# Altium schematic symbol library AltiumLib.SchLib: 341 symbols (part 3 of 5)
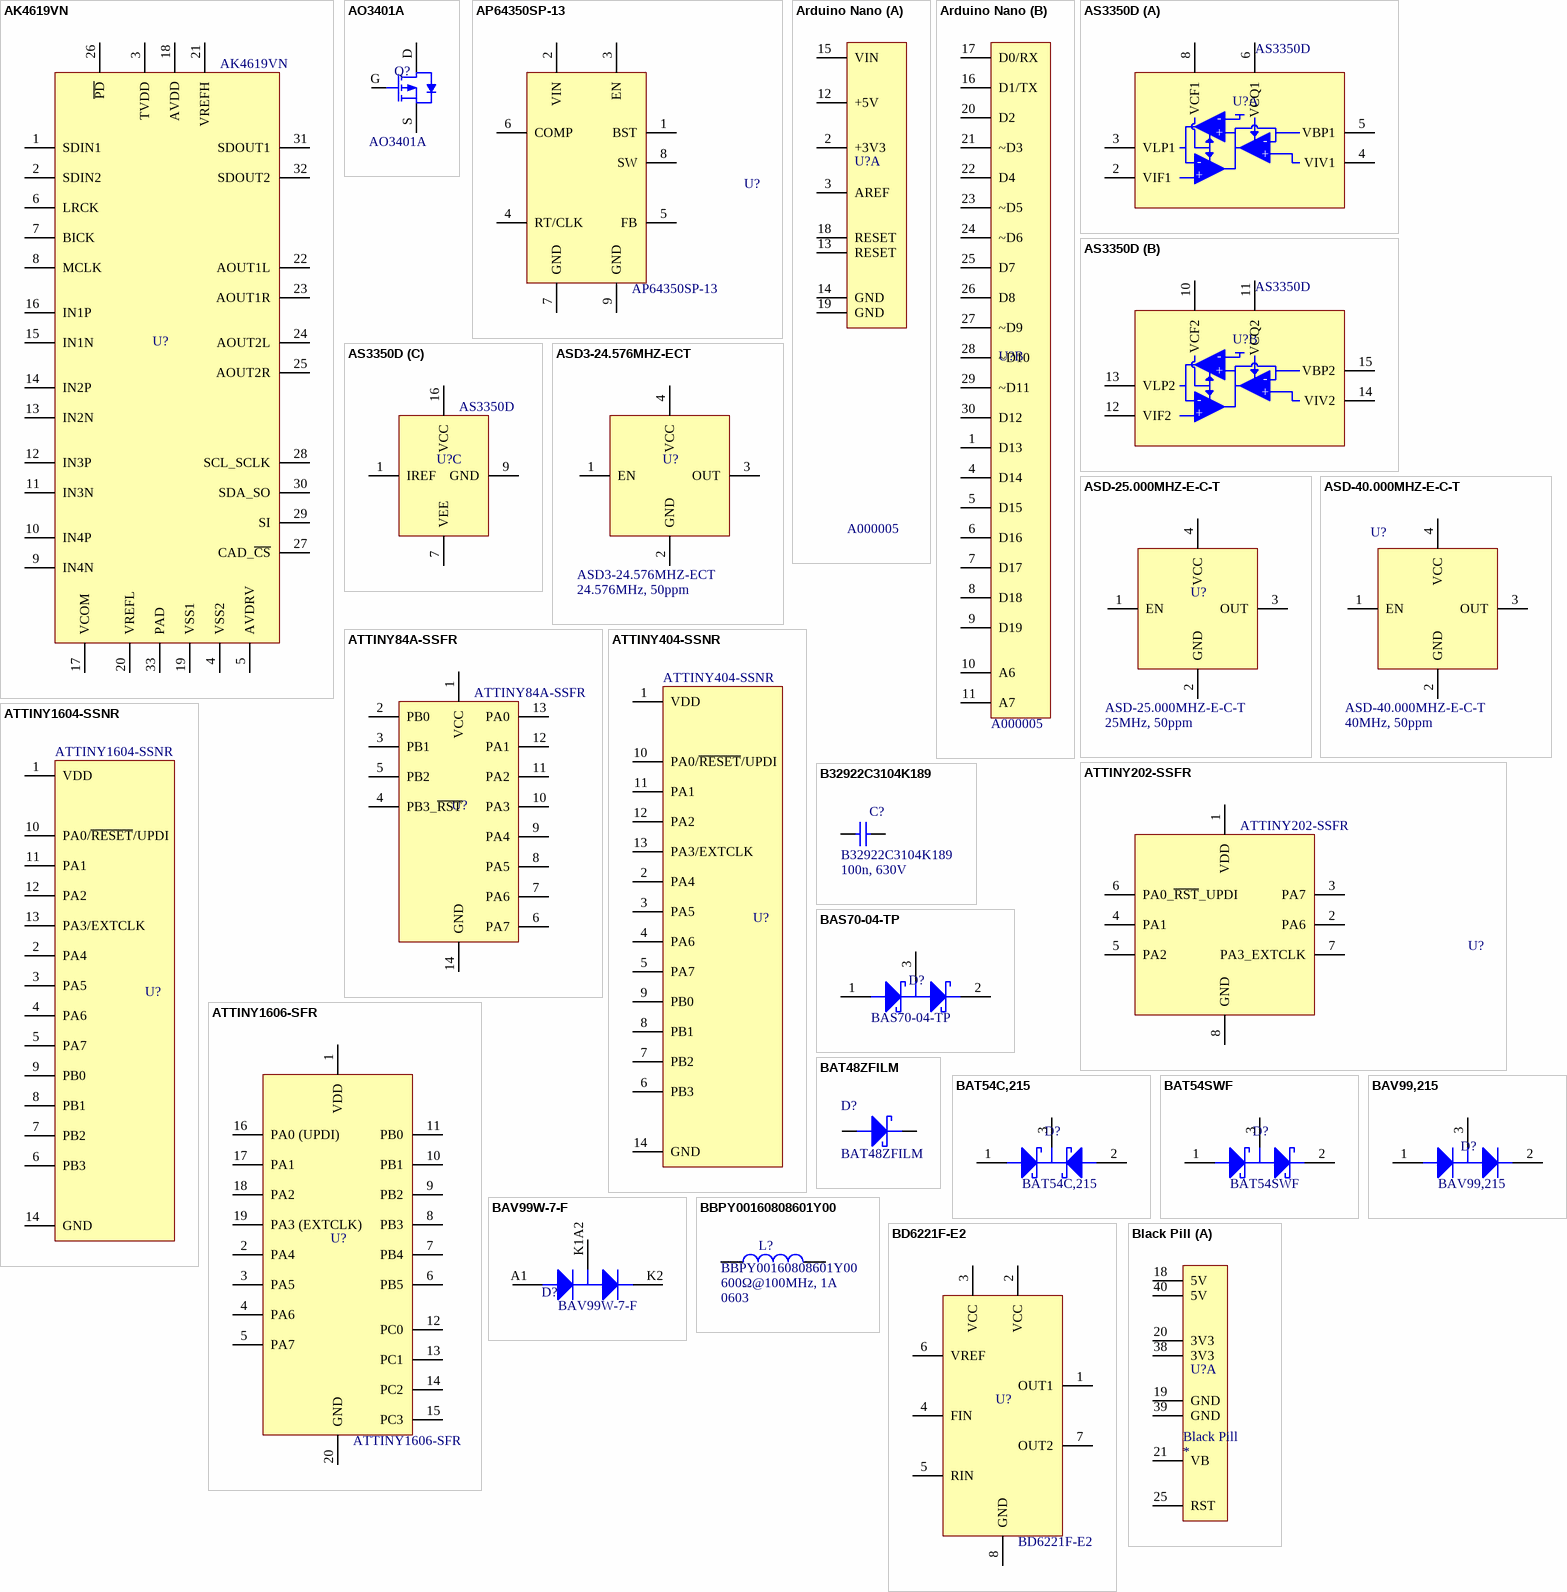
[diagram p21: symbols AK4619VN to Black Pill]

## ATTINY84A-SSFR
designator U?
8-bit Microcontrollers - MCU 20MHz, SOIC, High Grade (+125C), T&R; Manufacturer: Microchip; Category: IC; Sub-Category: CPU; Package: SOIC14; Value: ATTINY84A-SSFR
footprint SOIC127P600X175-14N (SOIC, 14-Leads, Body 8,65x3,90mm, Pitch 1,27mm, IPC Medium Density)
pins: 1 VCC, 2 PB0, 3 PB1, 4 PB3_~{RST}, 5 PB2, 6 PA7, 7 PA6, 8 PA5, 9 PA4, 10 PA3, 11 PA2, 12 PA1, 13 PA0, 14 GND

## ATTINY202-SSFR
designator U?
RISC Microcontroller, 8-Bit, FLASH, AVR RISC CPU, 16MHz, CMOS, PDSO8; Manufacturer: Microchip; RoHS Compliant: Yes; Category: IC; Sub-Category: CPU; REACH SVHC: Yes; Manufacturer Part Number: ATTINY202-SSFR; Component Type: Standard_IC_CPU; Package: SOIC8; Value: ATTINY202-SSFR
footprint SOIC127P600X175-8N (SOIC, 8-Leads, Body 4.91x3.90mm, Pitch 1.27mm, IPC Medium Density)
pins: 1 VDD, 2 PA6, 3 PA7, 4 PA1, 5 PA2, 6 PA0_~{RST}_UPDI, 7 PA3_EXTCLK, 8 GND

## ATTINY404-SSNR
designator U?
Microcontroller, 8-Bit, FLASH, AVR RISC CPU, 20MHz, CMOS, PDSO14; Manufacturer: Microchip; Reach SVHC Compliant: Yes; Category: IC; Sub-Category: CPU; RoHS Compliant: Yes; Manufacturer Part Number: ATTINY404-SSNR; Component Type: Standard_IC_CPU; Package: SOIC14; Value: ATTINY404-SSNR
footprint SOIC127P600X175-14N (SOIC, 14-Leads, Body 8.65x3.90mm, Pitch 1.27mm, IPC Medium Density)
pins: 1 VDD, 2 PA4, 3 PA5, 4 PA6, 5 PA7, 6 PB3, 7 PB2, 8 PB1, 9 PB0, 10 PA0/~{RESET}/UPDI, 11 PA1, 12 PA2, 13 PA3/EXTCLK, 14 GND

## ATTINY1604-SSNR
designator U?
RISC Microcontroller, 8-Bit, FLASH, AVR RISC CPU, 20MHz, CMOS, PDSO14; Manufacturer: Microchip; Sub-Category: CPU; Category: IC; RoHS Compliant: Yes; Reach SVHC Compliant: Yes; Manufacturer Part Number: ATTINY1604-SSNR; Component Type: Standard_IC_CPU; Package: SOIC14; Value: ATTINY1604-SSNR
footprint SOIC127P600X175-14N (SOIC, 14-Leads, Body 8.65x3.90mm, Pitch 1.27mm, IPC Medium Density)
pins: 1 VDD, 2 PA4, 3 PA5, 4 PA6, 5 PA7, 6 PB3, 7 PB2, 8 PB1, 9 PB0, 10 PA0/~{RESET}/UPDI, 11 PA1, 12 PA2, 13 PA3/EXTCLK, 14 GND

## ATTINY1606-SFR
designator U?
8-bit Microcontrollers - MCU 20MHz, 16KB, SOIC20; Manufacturer: Microchip; Category: IC; Sub-Category: CPU; Package: SOIC20; Value: ATTINY1606-SFR
footprint SOIC127P1030X265-20N (SOIC, 20-Leads, Body 12,80x7,50mm, Pitch 1,27mm, IPC Medium Density)
pins: 1 VDD, 2 PA4, 3 PA5, 4 PA6, 5 PA7, 6 PB5, 7 PB4, 8 PB3, 9 PB2, 10 PB1, 11 PB0, 12 PC0, 13 PC1, 14 PC2, 15 PC3, 16 PA0 (UPDI), 17 PA1, 18 PA2, 19 PA3 (EXTCLK), 20 GND

## B32922C3104K189
designator C?  Notes: 100n, 630V  (hidden comment: B32922C3104K189)
Film Capacitor, Polypropylene, 630V, 10% +Tol, 10% -Tol, 0.1uF, Through Hole Mount; Manufacturer: TDK; Reference Standard: IEC60384-14; Rated AC Voltage (URac): 305V; Capacitance: 100nF; Mount: Through Hole; Length: 18mm; Negative Tolerance: 10%; Rated DC Voltage (URdc): 630V; Reach SVHC Compliant: Yes; Terminal Pitch: 15mm; Package Style: RadialMeter; JESD-609 Code: e3; Packaging: Tape and Reel; RoHS Compliant: Yes; Positive Tolerance: 10%; Terminal Finish: Tin; Category: Capacitor; Dielectric Material: Polypropylene; Width: 10.5mm; Package Shape: Rectangular; Capacitor Type: FILM; Termination: Wire; Size Code: 7141; Sub-Category: Film; Height: 5mm; Number of Pins: 2; Min Operating Temperature: -40°C; Max Operating Temperature: 110°C; Manufacturer Part Number: B32922C3104K189; Component Type: Standard_Passive_C; Value: B32922C3104K189
footprint C_Film_W5mm, H10.5mm, L18mm, 15mm pitch (Film Capacitor, Non Polarized, 15mm lead spacing, 5mm width, 10.5mm Height, 18mm length)
pins: 1, 2

## BAS70-04-TP
designator D?
Pair Series Connection 100mA 10nA@50V 1V@15mA 70V 70mA SOT-23 Schottky Diodes; Manufacturer: MDD; Category: Diode; Sub-Category: Schottky; Package: SOT23; Value: BAS70-04-TP
footprint SOT95P230X110-3N
pins: 1, 2, 3

## BAT48ZFILM
designator D?
Rectifier Diode, Schottky, 1 Phase, 1 Element, 0.35A, 40V V(RRM), Silicon; Manufacturer: ST Microelectronics; Number of Elements: 1; Package Body Material: Plastic; Forward Voltage-Max (VF): 250mV; Non-rep Pk Forward Current-Max: 2A; Time @ Peak Reflow Temperature-Max (s): 30s; Max Output Current: 350mA; Qualification Status: Not Qualified; Peak Reflow Temperature (Cel): 260°C; Max Operating Temperature: 150°C; Terminal Position: DUAL; Rep Pk Reverse Voltage-Max: 40V; Technology: SCHOTTKY; JESD-30 Code: R-PDSO-G2; Category: Diode; Diode Type: RECTIFIER; Surface Mount: Yes; RoHS Compliant: Yes; Diode Element Material: SILICON; Number of Pins: 2; Sub-Category: Signal; Terminal Form: Gull Wing; REACH SVHC: Yes; JESD-609 Code: e3; Package Shape: Rectangular; Package Style: SMALL OUTLINEMeter; Terminal Finish: Tin; Manufacturer Part Number: BAT48ZFILM; Component Type: Standard_Diode; Package: SOD123; Value: BAT48ZFILM
footprint SODFL365X145-2N (SODFL, 2-Leads, Body 1.55x3.65mm, IPC Medium Density)
pins: A, K

## BAT54C,215
designator D?
Schottky Diodes & Rectifiers BAT54C/SOT23/TO-236AB; Manufacturer: Nexperia; Category: Diode; Sub-Category: Signal; Package: SOT-23-3; Value: BAT54C,215
footprint SOT95P248X115-3N (SOT23, 3-Leads, Body 2,95x2,48mm, Pitch 0,95mm, IPC Medium Density)
pins: 1, 2, 3

## BAT54SWF
designator D?
Schottky barrier diodes; Manufacturer: Nexperia; Category: Diode; Sub-Category: Signal; Package: SOT-323-3; Value: BAT54SWF
footprint SOT65P210X110-3N (SOT23, 3-Leads, Body 2,00x2,10mm, Pitch 0,65mm, IPC Medium Density)
pins: 1, 2, 3

## BAV99,215
designator D?
1 Pair Series Connection 1.25V@150mA 100V 215mA 250mW 4A 4ns 500nA@80V SOT-23 Switching Diodes ROHS; Manufacturer: Nexperia; Category: Diode; Sub-Category: Signal; Package: SOT23; Value: BAV99,215
footprint SOT95P230X110-3N
pins: 1, 2, 3

## BAV99W-7-F
designator D?
Rectifier Diode, 1 Phase, 2 Element, 0.15A, 75V V(RRM), Silicon; Manufacturer: Diodes Incorporated; Reverse Recovery Time-Max: 0.004us; Max Power Dissipation: 200mW; Case Connection: Isolated; Qualification Status: Not Qualified; Additional Feature: HIGH RELIABILITY; Package Body Material: Plastic; Time @ Peak Reflow Temperature-Max (s): 40s; Forward Voltage-Max (VF): 715mV; Max Output Current: 150mA; Number of Elements: 2; Non-rep Pk Forward Current-Max: 2A; Number of Pins: 3; Diode Element Material: SILICON; Diode Type: RECTIFIER; Package Shape: Rectangular; Rep Pk Reverse Voltage-Max: 75V; REACH SVHC: Yes; Surface Mount: Yes; JESD-30 Code: R-PDSO-G3; Terminal Form: Gull Wing; Moisture Sensitivity Level: 1; JESD-609 Code: e3; Sub-Category: Signal; Max Operating Temperature: 150°C; RoHS Compliant: Yes; Peak Reflow Temperature (Cel): 260°C; Terminal Position: DUAL; Package Style: SMALL OUTLINEMeter; Min Operating Temperature: -65°C; Terminal Finish: Tin; Category: Diode; Manufacturer Part Number: BAV99W-7-F; Component Type: Standard_Diode; Package: SOT323; Value: BAV99W-7-F
footprint SOT65P210X110-3N (SOT23, 3-Leads, Body 2.00x2.10mm, Pitch 0.65mm, IPC Medium Density); pin to pad A1>1 K1A2>3 K2>2
pins: A1, K1A2, K2

## BBPY00160808601Y00
designator L?  Package: 0603  Notes: 600Ω@100MHz, 1A  (hidden comment: BBPY00160808601Y00)
200mΩ 600Ω@100MHz 0603 Ferrite Beads ROHS; Manufacturer: Chilisin Elec; Category: Inductor; Sub-Category: Ferrite; Value: BBPY00160808601Y00
footprint INDC1608X10N (Chip Inductor, 2-Leads, Body 1,60x0,80mm, IPC Medium Density)
pins: 1, 2

## BD6221F-E2
designator U?
DC Brush Motor Driver, 6 to 18 V, 1 A, -40 to 85 degC, 8-Pin SOP, RoHS, Tape and Reel; Manufacturer: ROHM Semiconductor; Supply Voltage: 6 to 15 V; RON@IOUT: 0.5 A=1.5 Ohm Typ.; Output Current: 1 A Max.; ComponentLink1URL: http://www.rohm.com/web/global/; Mounting Technology: Surface Mount; DatasheetVersion: Rev. 003; ComponentLink2Description: Datasheet; RoHS: TRUE; ComponentLink3URL: http://rohmfs.rohm.com/en/products/databook/package/spec/ic/sop-1-2-e.pdf; ComponentLink1Description: Manufacturer URL; PartNumber: BD6221F-E2; PackageDescription: 8-Pin Small Outline Package, Body 5 x 4.4 mm, Pitch 1.27 mm; ComponentLink3Description: Package Specification; ComponentLink2URL: http://rohmfs.rohm.com/en/products/databook/datasheet/ic/motor/dc/bd622x-e.pdf; Temperature Range: -40 to 85 degC; PackageVersion: Rev. A; Packing: Tape and Reel; Category: IC; Sub-Category: Power; Package: SOP8; Value: BD6221F-E2
footprint SOP127P620X160-8N (SOP, 8-Leads, Body 5.2x4.6mm, Pitch 1.27mm)
pins: 1 OUT1 (hiz) "Driver output", 2 VCC (power) "Power supply", 3 VCC (power) "Power supply", 4 FIN "Control input (forward)", 5 RIN "Control input (reverse)", 6 VREF "Duty setting pin", 7 OUT2 (hiz) "Driver output", 8 GND (power) "Ground"

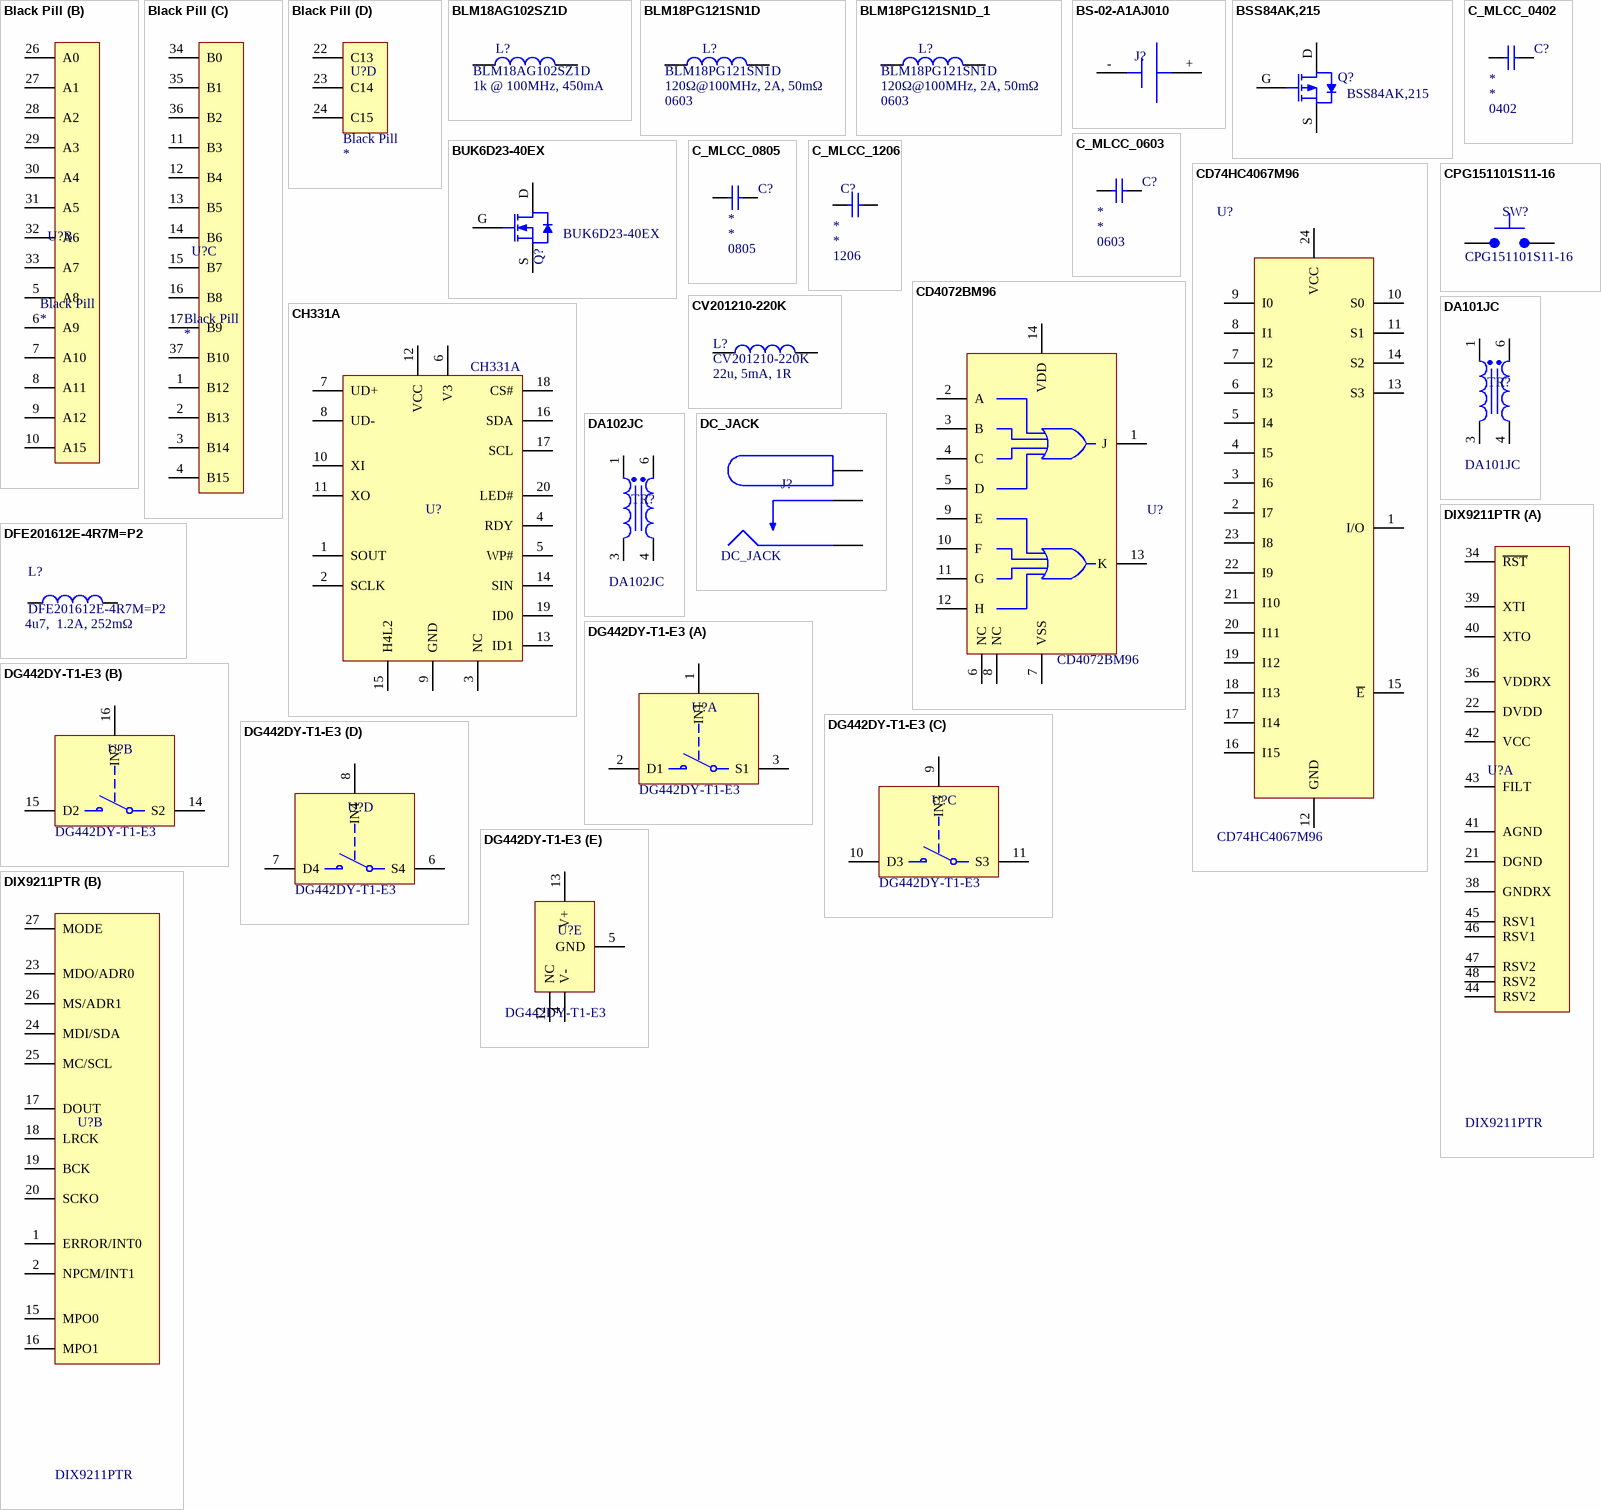
[diagram p5: symbols Black Pill to DIX9211PTR]

## Black Pill
designator U?, comment value Black Pill  (hidden comment: Blackpill)
Manufacturer: We Act; Category: Module; Sub-Category: CPU; Notes: *
footprint BlackPill - WeAct
part A pins: 18 5V, 19 GND, 20 3V3, 21 VB, 25 RST, 38 3V3, 39 GND, 40 5V
part B pins: 5 A8, 6 A9, 7 A10, 8 A11, 9 A12, 10 A15, 26 A0, 27 A1, 28 A2, 29 A3, 30 A4, 31 A5, 32 A6, 33 A7
part C pins: 1 B12, 2 B13, 3 B14, 4 B15, 11 B3, 12 B4, 13 B5, 14 B6, 15 B7, 16 B8, 17 B9, 34 B0, 35 B1, 36 B2, 37 B10
part D pins: 22 C13, 23 C14, 24 C15

## BLM18AG102SZ1D
designator L?  Notes: 1k @ 100MHz, 450mA  (hidden comment: BLM18AG102SZ1D)
Ferrite Chip, 1 Function(s), 0.45A, 2 Pin(s); Manufacturer: Murata; Sub-Category: Ferrite; Reach SVHC Compliant: Yes; Category: Inductor; RoHS Compliant: Yes; Filter Type: FERRITE CHIP; Manufacturer Part Number: BLM18AG102SZ1D; Component Type: Standard_Passive_L; Value: BLM18AG102SZ1D
footprint INDC1608X10N (Chip Inductor, 2-Leads, Body 1.60x0.80mm, IPC Medium Density)
pins: 1, 2

## BLM18PG121SN1D
designator L?  Package: 0603  Notes: 120Ω@100MHz, 2A, 50mΩ  (hidden comment: BLM18PG121SN1D)
120Ω@100MHz 2A 50mΩ ±25% 0603 Ferrite Beads ROHS; Manufacturer: Murata; Category: Inductor; Sub-Category: Ferrite; Value: BLM18PG121SN1D
footprint INDC1608X10N (Chip Inductor, 2-Leads, Body 1,60x0,80mm, IPC Medium Density)
pins: 1, 2

## BLM18PG121SN1D_1
designator L?, comment Package: 0603  Notes: 120Ω@100MHz, 2A, 50mΩ  (hidden comment: BLM18PG121SN1D)
120Ω@100MHz 2A 50mΩ ±25% 0603 Ferrite Beads ROHS; Manufacturer: Murata; Category: Inductor; Sub-Category: Ferrite; Value: BLM18PG121SN1D
footprint INDC1608X10N (Chip Inductor, 2-Leads, Body 1,60x0,80mm, IPC Medium Density)
pins: 1, 2

## BS-02-A1AJ010
designator J?  (value not drawn)
CR2032 Battery Holder; Manufacturer: MYOUNG; Value: BS-02-A1AJ010; Category: Connector; Sub-Category: Power
footprint BS-02-A1AJ010
pins: +, -

## BSS84AK,215
designator Q?
Small Signal Field-Effect Transistor, 0.18A I(D), 50V, 1-Element, P-Channel, Silicon, Metal-oxide Semiconductor FET, TO-236AB; Manufacturer: Nexperia; Package Body Material: Plastic; Time @ Peak Reflow Temperature-Max (s): 30s; Reference Standard: AEC-Q101; Number of Elements: 1; Transistor Application: SWITCHING; Drain-source On Resistance-Max: 8.5R; Operating Mode: ENHANCEMENT MODE; Drain Current-Max (ID): 180mA; Terminal Position: DUAL; Terminal Form: Gull Wing; Pins: 3; JESD-30 Code: R-PDSO-G3; Terminal Finish: Tin; Reach SVHC Compliant: Yes; JESD-609 Code: e3; Sub-Category: MOSFET; Transistor Element Material: SILICON; JEDEC-95 Code: TO-236AB; Moisture Sensitivity Level: 1; Package Style: SMALL OUTLINEMeter; DS Breakdown Voltage-Min: 50V; RoHS Compliant: Yes; Package Shape: Rectangular; Surface Mount: Yes; Category: Transistor; Polarity/Channel Type: P-CHANNEL; Peak Reflow Temperature (Cel): 260°C; FET Technology: METAL-OXIDE SEMICONDUCTOR; Manufacturer Part Number: BSS84AK,215; Component Type: Standard_Transistor; Package: SOT23-3; Value: BSS84AK,215
footprint SOT90P240X120-3N (SOT23, 3-Leads, Body 2.90x2.40mm, Pitch 0.90mm, IPC Medium Density); pin to pad D>3 G>1 S>2
pins: D, G, S

## BUK6D23-40EX
designator Q?
BUK6D23-40E/SOT1220/SOT1220; Manufacturer: Nexperia; Category: Transistor; Manufacturer Part Number: BUK6D23-40EX; Component Type: Standard_Transistor; Sub-Category: MOSFET; Package: DFN2020-6; Value: BUK6D23-40EX
footprint DFN2020MD-6; pin to pad D>1+2+5+6+7 G>3 S>4+8
pins: D, G, S

## C_MLCC_0402
designator C?  Package: 0402  (hidden comment: C_MLCC_0402)
Generic MLCC 0402 Non Polarized Capacitor; Category: Capacitor; Sub-Category: MLCC; Manufacturer: Generic; Notes: *; Value: *
footprint CAPC1005X06N
pins: 1, 2

## C_MLCC_0603
designator C?  Package: 0603  (hidden comment: C_MLCC_0603)
Generic MLCC 0603 Non Polarized Capacitor; Category: Capacitor; Sub-Category: MLCC; Manufacturer: Generic; Notes: *; Value: *
footprint CAPC1608X09N (Chip Capacitor, 2-Leads, Body 1.60x0.80mm, IPC Medium Density)
pins: 1, 2

## C_MLCC_0805
designator C?  Package: 0805  (hidden comment: C_MLCC_0805)
Generic MLCC 0805 Non Polarized Capacitor; Category: Capacitor; Sub-Category: MLCC; Manufacturer: Generic; Notes: *; Value: *
footprint CAPC2012X14N (Chip Capacitor, 2-Leads, Body 2.00x1.25mm, IPC Medium Density)
pins: 1, 2

## C_MLCC_1206
designator C?  Package: 1206  (hidden comment: C_MLCC_1206)
Generic MLCC Non Polarized Capacitor 1206; Manufacturer: Generic; Category: Capacitor; Sub-Category: MLCC; Notes: *; Value: *
footprint C_NP_1206
pins: 1, 2

## CD74HC4067M96
designator U?
Multiplexer Switch ICs Hi-Spd CMOS 16Ch Anl Mltplxr/Demltplxr; Manufacturer: Texas Instruments; Category: IC; Sub-Category: Logic; Package: SOIC24; Value: CD74HC4067M96
footprint SOIC127P1030X265-24N (SOIC, 24-Leads, Body 15,40x7,50mm, Pitch 1,27mm, IPC Medium Density)
pins: 1 I/O, 2 I7, 3 I6, 4 I5, 5 I4, 6 I3, 7 I2, 8 I1, 9 I0, 10 S0, 11 S1, 12 GND, 13 S3, 14 S2, 15 ~{E}, 16 I15, 17 I14, 18 I13, 19 I12, 20 I11, 21 I10, 22 I9, 23 I8, 24 VCC

## CD4072BM96
designator U?
OR Gate, 4000/14000/40000 Series, 2-Func, 4-Input, CMOS, PDSO14; Manufacturer: Texas Instruments; Load Capacitance (CL): 50pF; Number of Inputs: 4; Min Supply Voltage: 3V; Output Characteristics: OPEN-COLLECTOR; Logic Type: OR GATE; Max Supply Voltage: 18V; Power Supplies: 5/15V; Schmitt Trigger: No; Propagation Delay (tpd): 250ns; Package Body Material: Plastic; Channels: 2; Package Equivalence Code: SOP14,.25; Qualification Status: Not Qualified; Nominal Supply Voltage: 5V; Sub-Category: Logic; Terminal Finish: Nickel; Temperature Grade: MILITARY; Length: 8.65mm; Moisture Sensitivity Level: 1; Height - Seated (Max): 1.75mm; JESD-609 Code: e4; Peak Reflow Temperature (Cel): 260°C; Surface Mount: Yes; Reach SVHC Compliant: Yes; Technology: CMOS; Category: IC; Width: 3.9mm; Terminal Pitch: 1.27mm; Case/Package: SOP; Min Operating Temperature: -55°C; Terminal Form: Gull Wing; Max Operating Temperature: 125°C; JESD-30 Code: R-PDSO-G14; Pins: 14; Prop. Delay@Nom-Sup: 250ns; Terminal Position: DUAL; Packaging: Tape and Reel; Package Shape: Rectangular; RoHS Compliant: Yes; Package Style: SMALL OUTLINEMeter; Manufacturer Part Number: CD4072BM96; Component Type: Standard_IC_Logic; Value: CD4072BM96
footprint SOIC127P600X175-14N (SOIC, 14-Leads, Body 8.65x3.90mm, Pitch 1.27mm, IPC Medium Density)
pins: 1 J, 2 A, 3 B, 4 C, 5 D, 6 NC, 7 VSS, 8 NC, 9 E, 10 F, 11 G, 12 H, 13 K, 14 VDD

## CH331A
designator U?
USB 2.0 SSOP-20-208mil USB Converters ROHS; Manufacturer: WCH; Category: IC; Sub-Category: USB; Package: SSOP20; Value: CH331A
footprint TSOP65P640X120-20N (TSOP, 20-Leads, Body 6,90x4,40mm, Pitch 0,65mm, IPC Medium Density)
pins: 1 SOUT, 2 SCLK, 3 NC, 4 RDY, 5 WP#, 6 V3, 7 UD+, 8 UD-, 9 GND, 10 XI, 11 XO, 12 VCC, 13 ID1, 14 SIN, 15 H4L2, 16 SDA, 17 SCL, 18 CS#, 19 ID0, 20 LED#

## CPG151101S11-16
designator SW?
MX Compatible hot swap socket; Manufacturer: Kailh; Category: Switch; Sub-Category: Tactile; Value: CPG151101S11-16
footprint CPG151101S11-16
pins: 1, 2

## CV201210-220K
designator L?  Notes: 22u, 5mA, 1R  (hidden comment: CV201210-220K)
General Purpose Inductor, 22uH, 10%, 1 Element, Ferrite-Core, SMD, 0805; Manufacturer: Bourns; Quality Factor-Min (at L-nom): 30; Shape/Size Description: RECTANGULAR PACKAGE; Test Frequency: 1MHz; Inductor Application: RF INDUCTOR; DC Resistance (DCR): 1.1R; Case/Size Code: 0805; Package Height: 1.25mm; Package Length: 2mm; Number of Functions: 1; Self Resonant Frequency: 16MHz; Shielding: Shielded; Min Operating Temperature: -55°C; Package: 0805; Terminal Finish: Nickel; Series: CV201210; Number of Pins: 2; RoHS Compliant: Yes; Category: Inductor; Termination: Wraparound; Tolerance: 10%; Construction: Multilayer Chip; Surface Mount: Yes; Terminal Placement: Dual Ended; Core Material: Ferrite; Sub-Category: Ferrite; Max Operating Temperature: 125°C; Manufacturer Series: CV201210; Inductor Type: GENERAL PURPOSE INDUCTOR; REACH SVHC: Yes; JESD-609 Code: e3; Inductance-Nom (L): 22uH; Package Style: SMTMeter; Packaging: Tape and Reel; Package Width: 1.25mm; Manufacturer Part Number: CV201210-220K; Component Type: Standard_Passive_L; Value: CV201210-220K
footprint INDC2012X14N (Chip Inductor, 2-Leads, Body 2.00x1.25mm, IPC Medium Density)
pins: 1, 2

## DA101JC
designator TR?
SM Transformers for Digital Audio Data Transmission; Manufacturer: Murata; Category: Inductor; Sub-Category: Transformer; Value: DA101JC
footprint DA100J
pins: 1, 3, 4, 6

## DA102JC
designator TR?
SM Transformers for Digital Audio Data Transmission; Manufacturer: Murata; Category: Inductor; Sub-Category: Transformer; Value: DA102JC
footprint DA100J
pins: 1, 3, 4, 6

## DC_JACK
designator J?
Generic Switched Horizontal DC Jack; Manufacturer: Generic; Category: Connector; Sub-Category: Jack; Value: DC_JACK
footprint DC_JACK
pins: S, SN, T

## DFE201612E-4R7M=P2
designator L?  Notes: 4u7,  1.2A, 252mΩ  (hidden comment: DFE201612E-4R7M=P2)
1.2A 1.8A 252mΩ 4.7uH ±20% 0806 Power Inductors; Manufacturer: Murata; Category: Inductor; Sub-Category: Power; Value: DFE201612E-4R7M=P2
footprint INDC2016X12N (Chip Inductor, 2-Leads, Body 2,00x1,60mm, IPC Medium Density)
pins: 1, 2

## DG442DY-T1-E3
designator U?
Quad SPST CMOS Analog Switches; Manufacturer: Vishay; Category: IC; Sub-Category: Logic; Package: SOIC16; Value: DG442DY-T1-E3
footprint SOIC127P600X175-16N (SOIC, 16-Leads, Body 10,40x3,95mm, Pitch 1,27mm, IPC Medium Density)
part A pins: 1 IN1, 2 D1, 3 S1
part B pins: 14 S2, 15 D2, 16 IN2
part C pins: 9 IN3, 10 D3, 11 S3
part D pins: 6 S4, 7 D4, 8 IN4
part E pins: 4 V-, 5 GND, 12 NC, 13 V+

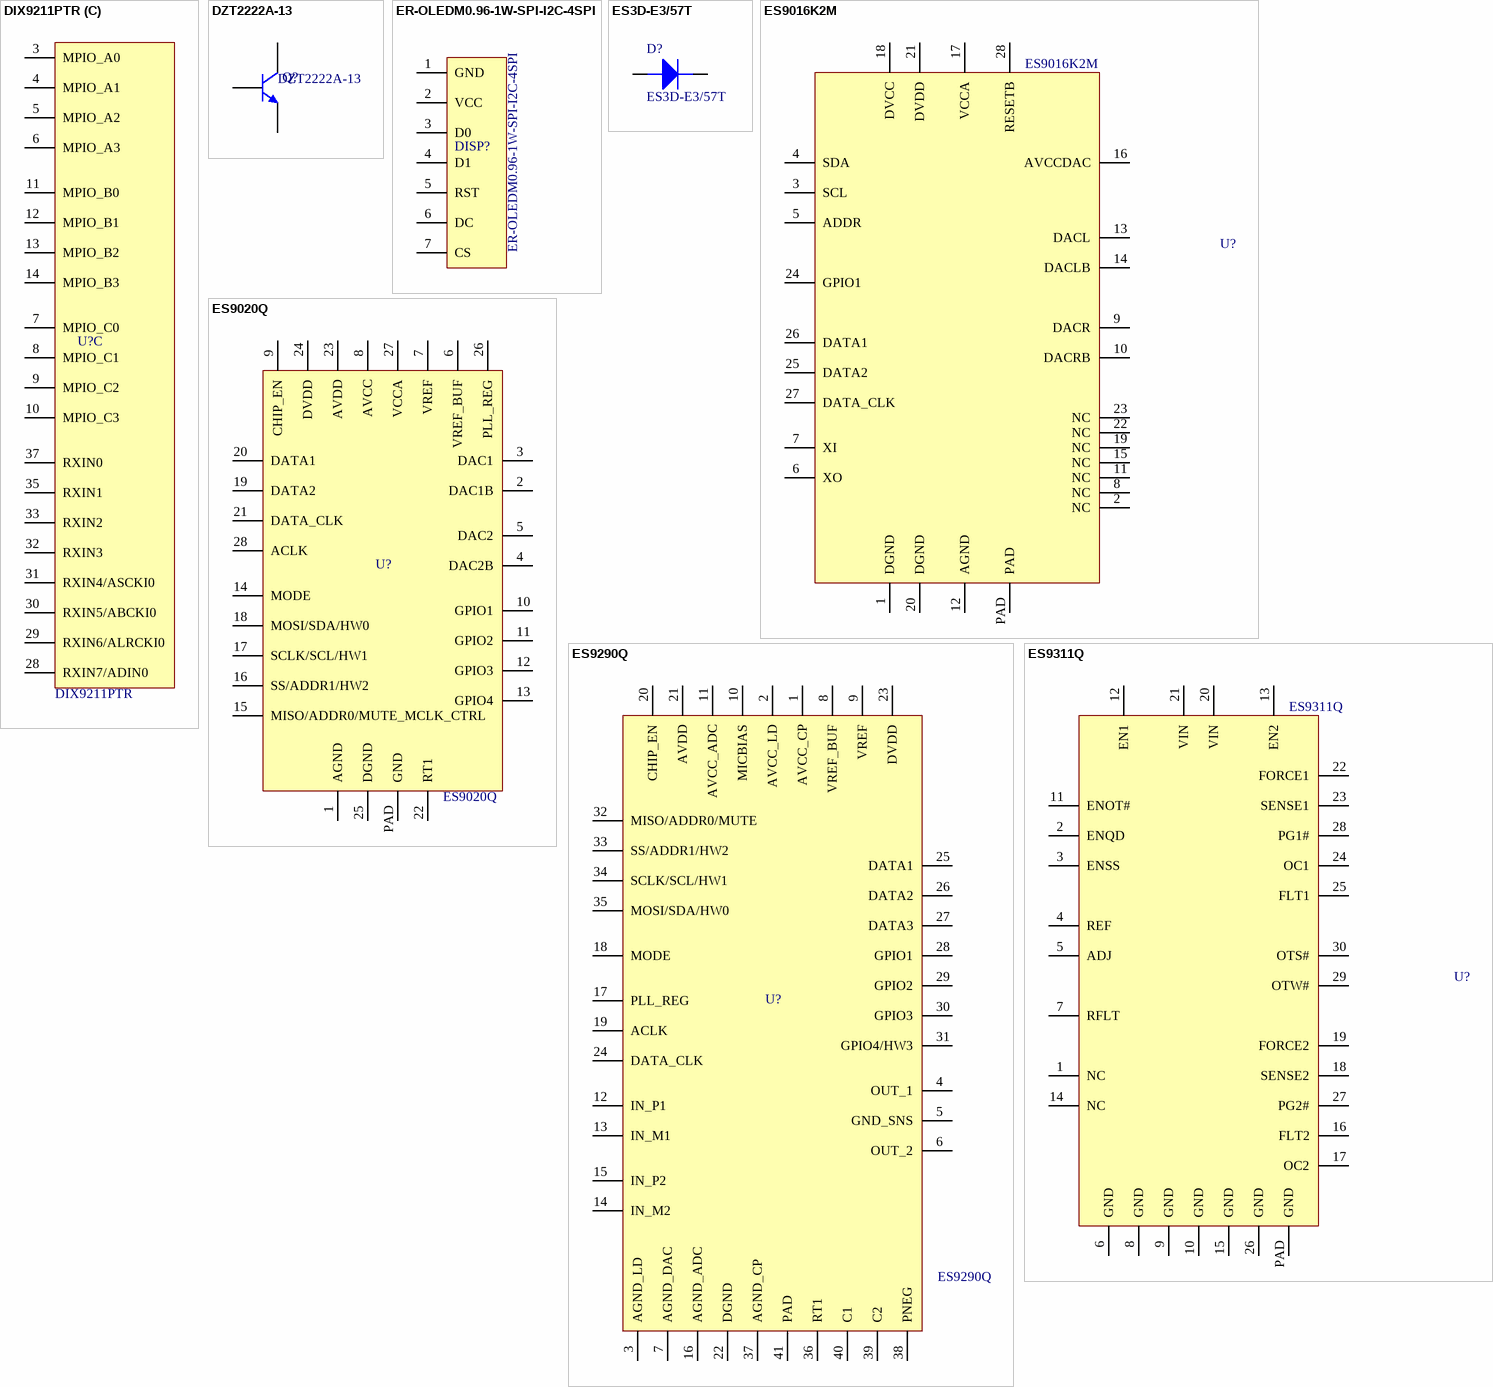
[diagram p6: symbols DIX9211PTR to ES9311Q]

## DIX9211PTR
designator U?
216-kHz Digital Audio Interface Transceiver (DIX); Manufacturer: Texas Intruments; Category: IC; Sub-Category: ADC; Value: DIX9211PTR
footprint TSQFP50P900X900X160-48N (TSQFP, 48-Leads, Body 7,00x7,00mm, Pitch 0,50mm, IPC Medium Density)
part A pins: 21 DGND, 22 DVDD, 34 ~{RST}, 36 VDDRX, 38 GNDRX, 39 XTI, 40 XTO, 41 AGND, 42 VCC, 43 FILT, 44 RSV2, 45 RSV1, 46 RSV1, 47 RSV2, 48 RSV2
part B pins: 1 ERROR/INT0, 2 NPCM/INT1, 15 MPO0, 16 MPO1, 17 DOUT, 18 LRCK, 19 BCK, 20 SCKO, 23 MDO/ADR0, 24 MDI/SDA, 25 MC/SCL, 26 MS/ADR1, 27 MODE
part C pins: 3 MPIO_A0, 4 MPIO_A1, 5 MPIO_A2, 6 MPIO_A3, 7 MPIO_C0, 8 MPIO_C1, 9 MPIO_C2, 10 MPIO_C3, 11 MPIO_B0, 12 MPIO_B1, 13 MPIO_B2, 14 MPIO_B3, 28 RXIN7/ADIN0, 29 RXIN6/ALRCKI0, 30 RXIN5/ABCKI0, 31 RXIN4/ASCKI0, 32 RXIN3, 33 RXIN2, 35 RXIN1, 37 RXIN0

## DZT2222A-13
designator Q?
Small Signal Bipolar Transistor, 0.6A I(C), 40V V(BR)CEO, 1-Element, NPN, Silicon; Manufacturer: Diodes Incorporated; Time @ Peak Reflow Temperature-Max (s): 40s; Number of Elements: 1; Case Connection: COLLECTOR; Transistor Application: SWITCHING; Package Body Material: Plastic; Turn-on Time-Max (ton): 35ns; Power Dissipation-Max (Abs): 1W; DC Current Gain-Min (hFE): 40; Max Collector Current: 600mA; Transition Frequency-Nom (fT): 300MHz; Qualification Status: Not Qualified; Turn-off Time-Max (toff): 285ns; Max Operating Temperature: 150°C; JESD-609 Code: e3; Moisture Sensitivity Level: 1; Sub-Category: BJT; JESD-30 Code: R-PDSO-G4; Collector-emitter Voltage-Max: 40V; RoHS Compliant: Yes; Surface Mount: Yes; REACH SVHC: Yes; Polarity/Channel Type: NPN; Terminal Finish: Tin; Terminal Form: Gull Wing; Package Shape: Rectangular; Number of Pins: 4; Transistor Element Material: SILICON; Package Style: SMALL OUTLINEMeter; Category: Transistor; Peak Reflow Temperature (Cel): 260°C; Terminal Position: DUAL; Manufacturer Part Number: DZT2222A-13; Component Type: Standard_Transistor; Package: SOT223-4; Value: DZT2222A-13
footprint SOT230P700X165-4N (SOT223, 4-Leads, Body 6.50x7.00mm (avg), Pitch 2.30mm, IPC Medium Density); pin to pad B>1 C>2+TAB E>3
pins: B, C, E

## ER-OLEDM0.96-1W-SPI-I2C-4SPI
designator DISP?
White 0.96" OLED Display Panel with I2C,3/4-wire Interface Board; Manufacturer: EastRising; Category: Module; Sub-Category: Display; Value: ER-OLEDM0.96-1W-SPI-I2C-4SPI
footprint 0.96" OLED 7 pins
pins: 1 GND, 2 VCC, 3 D0, 4 D1, 5 RST, 6 DC, 7 CS

## ES3D-E3/57T
designator D?
Diode; Rectifier; Ultrafast; Vr 200V; If 3A; Pkg DO-214AB (SMC); Vf 0.9V; Trr 20ns; Manufacturer: Vishay; Number of Phases: 1; Package Body Material: Plastic; Time @ Peak Reflow Temperature-Max (s): 40s; Application(s): EFFICIENCY; Diode Element Material: SILICON; Reverse Recovery Time-Max: 0.03us; Qualification Status: Not Qualified; Forward Voltage-Max (VF): 900mV; Non-rep Pk Forward Current-Max: 100A; Sub-Category: Power; Category: Diode; Moisture Sensitivity Level: 1; JESD-30 Code: R-PDSO-C2; Max Output Current: 3A; Rep Pk Reverse Voltage-Max: 200V; Terminal Form: C BEND; JESD-609 Code: e3; Max Operating Temperature: 150°C; RoHS Compliant: Yes; Number of Pins: 2; Terminal Position: DUAL; Package Shape: Rectangular; Number of Elements: 1; Min Operating Temperature: -55°C; Surface Mount: Yes; Peak Reflow Temperature (Cel): 260°C; Terminal Finish: Tin; Package Style: SMALL OUTLINEMeter; REACH SVHC: No SVHC; Diode Type: RECTIFIER; JEDEC-95 Code: DO-214AB; Manufacturer Part Number: ES3D-E3/57T; Component Type: Standard_Diode; Package: SMC; Value: ES3D-E3/57T
footprint DIOM6959X26N (Molded Diode, 2-Leads, Body 6.86x5.91mm, IPC Medium Density)
pins: A, K

## ES9016K2M
designator U?
Audio D/A Converter ICs Sabre 32 Ultra Stereo low power audiophile DAC; Manufacturer: ESS; Category: IC; Sub-Category: Audio; Component Type: Standard_IC_Converter; Package: QFN28; Value: ES9016K2M
footprint PQFN50P500X500X90_HS-29N (PQFN, 28-Leads, Body 5.00x5.00mm, Pitch 0.50mm, Thermal Pad 3.05x3.05mm, IPC Medium Density)
pins: 1 DGND, 2 NC, 3 SCL, 4 SDA, 5 ADDR, 6 XO, 7 XI, 8 NC, 9 DACR, 10 DACRB, 11 NC, 12 AGND, 13 DACL, 14 DACLB, 15 NC, 16 AVCCDAC, 17 VCCA, 18 DVCC, 19 NC, 20 DGND, 21 DVDD, 22 NC, 23 NC, 24 GPIO1, 25 DATA2, 26 DATA1, 27 DATA_CLK, 28 RESETB, PAD

## ES9020Q
designator U?
SABRE 2 Channel High Performance DAC; Manufacturer: ESS; Category: IC; Sub-Category: DAC; Package: QFN28; Value: ES9020Q
footprint PQFN50P500X500X80_HS-29N (PQFN, 28-Leads, Body 5,00x5,00mm, Pitch 0,50mm, Thermal Pad 3,25x3,25mm, IPC Medium Density)
pins: 1 AGND, 2 DAC1B, 3 DAC1, 4 DAC2B, 5 DAC2, 6 VREF_BUF, 7 VREF, 8 AVCC, 9 CHIP_EN, 10 GPIO1, 11 GPIO2, 12 GPIO3, 13 GPIO4, 14 MODE, 15 MISO/ADDR0/MUTE_MCLK_CTRL, 16 SS/ADDR1/HW2, 17 SCLK/SCL/HW1, 18 MOSI/SDA/HW0, 19 DATA2, 20 DATA1, 21 DATA_CLK, 22 RT1, 23 AVDD, 24 DVDD, 25 DGND, 26 PLL_REG, 27 VCCA, 28 ACLK, PAD GND

## ES9290Q
designator U?
Stereo High Performance CODEC; Manufacturer: ESS; Category: IC; Sub-Category: Audio; Package: QFN40; Value: ES9290Q
footprint QFN40P500X500X80_HS-41N (QFN, 40-Leads, Body 5,00x5,00mm, Pitch 0,40mm, Thermal Pad 3,50x3,50mm, IPC Medium Density)
pins: 1 AVCC_CP, 2 AVCC_LD, 3 AGND_LD, 4 OUT_1, 5 GND_SNS, 6 OUT_2, 7 AGND_DAC, 8 VREF_BUF, 9 VREF, 10 MICBIAS, 11 AVCC_ADC, 12 IN_P1, 13 IN_M1, 14 IN_M2, 15 IN_P2, 16 AGND_ADC, 17 PLL_REG, 18 MODE, 19 ACLK, 20 CHIP_EN, 21 AVDD, 22 DGND, 23 DVDD, 24 DATA_CLK, 25 DATA1, 26 DATA2, 27 DATA3, 28 GPIO1, 29 GPIO2, 30 GPIO3, 31 GPIO4/HW3, 32 MISO/ADDR0/MUTE, 33 SS/ADDR1/HW2, 34 SCLK/SCL/HW1, 35 MOSI/SDA/HW0, 36 RT1, 37 AGND_CP, 38 PNEG, 39 C2, 40 C1, 41 PAD

## ES9311Q
designator U?
Dual, Ultra Low Noise +3.3V Regulator; Manufacturer: ESS; Category: IC; Sub-Category: Power; Component Type: Standard_IC_Power; Package: QFN30; Value: ES9311Q
footprint QFN40P300X500X80_HS-31N (QFN, 30-Leads, Body 3.00x5.00mm, Pitch 0.40mm, Thermal Pad 1.80x3.80mm, IPC Medium Density)
pins: 1 NC, 2 ENQD, 3 ENSS, 4 REF, 5 ADJ, 6 GND, 7 RFLT, 8 GND, 9 GND, 10 GND, 11 ENOT#, 12 EN1, 13 EN2, 14 NC, 15 GND, 16 FLT2, 17 OC2, 18 SENSE2, 19 FORCE2, 20 VIN, 21 VIN, 22 FORCE1, 23 SENSE1, 24 OC1, 25 FLT1, 26 GND, 27 PG2#, 28 PG1#, 29 OTW#, 30 OTS#, PAD GND

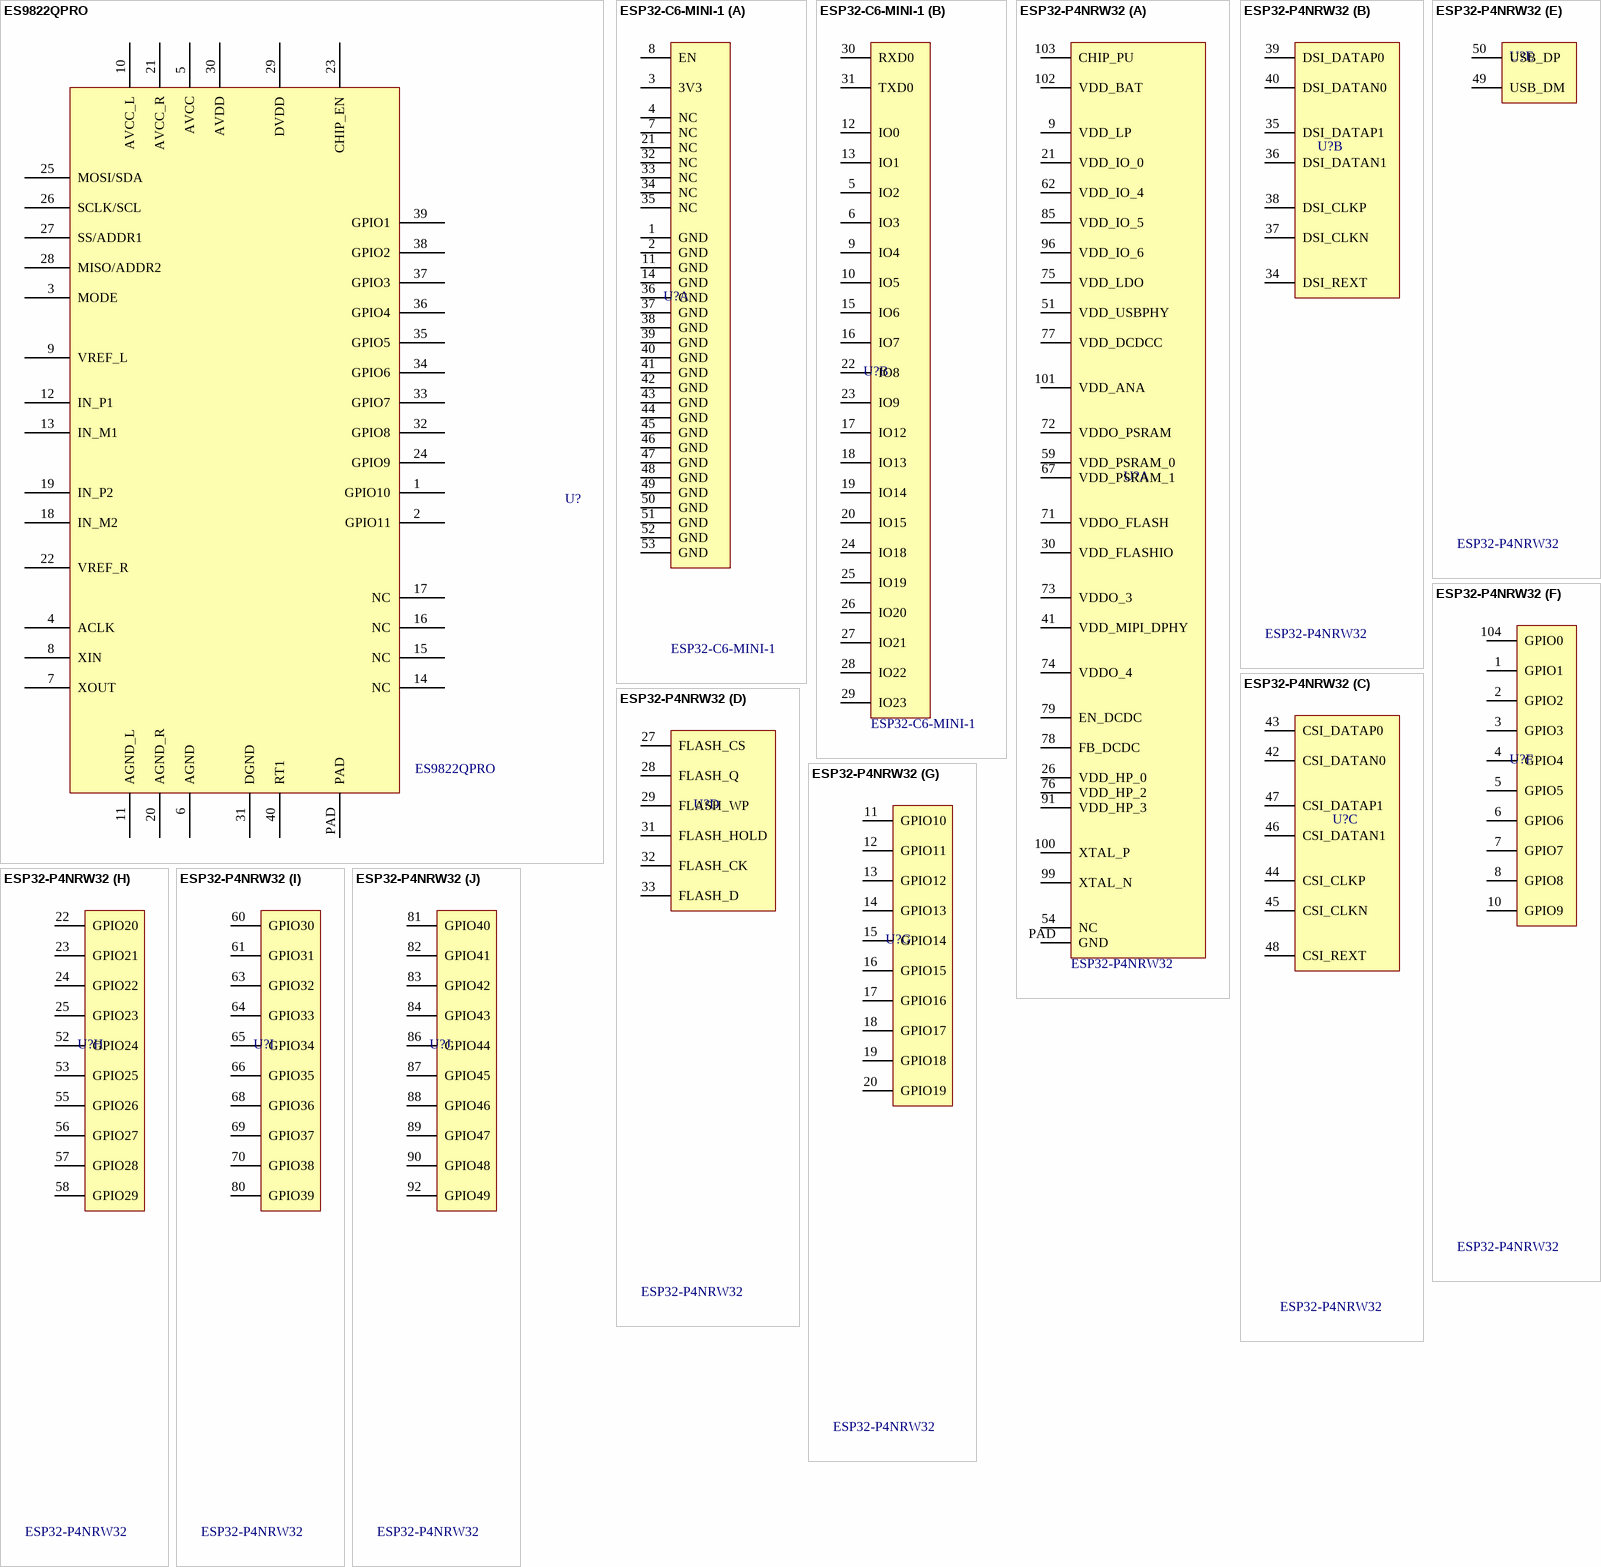
[diagram p7: symbols ES9822QPRO to ESP32-P4NRW32]

## ES9822QPRO
designator U?
Stereo Reference ADC with 125dB DNR; Manufacturer: ESS; Sub-Category: Audio; Category: IC; Component Type: Standard_IC_Converter; Package: QFN40; Value: ES9822QPRO
footprint PQFN40P500X500X80_HS-41N (PQFN, 40-Leads, Body 5.00x5.00mm, Pitch 0.40mm, Thermal Pad 3.79x3.79mm, IPC Medium Density)
pins: 1 GPIO10, 2 GPIO11, 3 MODE, 4 ACLK, 5 AVCC, 6 AGND, 7 XOUT, 8 XIN, 9 VREF_L, 10 AVCC_L, 11 AGND_L, 12 IN_P1, 13 IN_M1, 14 NC, 15 NC, 16 NC, 17 NC, 18 IN_M2, 19 IN_P2, 20 AGND_R, 21 AVCC_R, 22 VREF_R, 23 CHIP_EN, 24 GPIO9, 25 MOSI/SDA, 26 SCLK/SCL, 27 SS/ADDR1, 28 MISO/ADDR2, 29 DVDD, 30 AVDD, 31 DGND, 32 GPIO8, 33 GPIO7, 34 GPIO6, 35 GPIO5, 36 GPIO4, 37 GPIO3, 38 GPIO2, 39 GPIO1, 40 RT1, PAD

## ESP32-C6-MINI-1
designator U?
Module that supports 2.4 GHz Wi-Fi 6 (802.11ax), Bluetooth® 5 (LE), Zigbee and / Thread (802.15.4); Manufacturer: Espressif; Category: IC; Sub-Category: CPU; Value: ESP32-C6-MINI-1
footprint ESP32-C6-MINI-1
part A pins: 1 GND, 2 GND, 3 3V3, 4 NC, 7 NC, 8 EN, 11 GND, 14 GND, 21 NC, 32 NC, 33 NC, 34 NC, 35 NC, 36 GND, 37 GND, 38 GND, 39 GND, 40 GND, 41 GND, 42 GND, 43 GND, 44 GND, 45 GND, 46 GND, 47 GND, 48 GND, 49 GND, 50 GND, 51 GND, 52 GND, 53 GND
part B pins: 5 IO2, 6 IO3, 9 IO4, 10 IO5, 12 IO0, 13 IO1, 15 IO6, 16 IO7, 17 IO12, 18 IO13, 19 IO14, 20 IO15, 22 IO8, 23 IO9, 24 IO18, 25 IO19, 26 IO20, 27 IO21, 28 IO22, 29 IO23, 30 RXD0, 31 TXD0

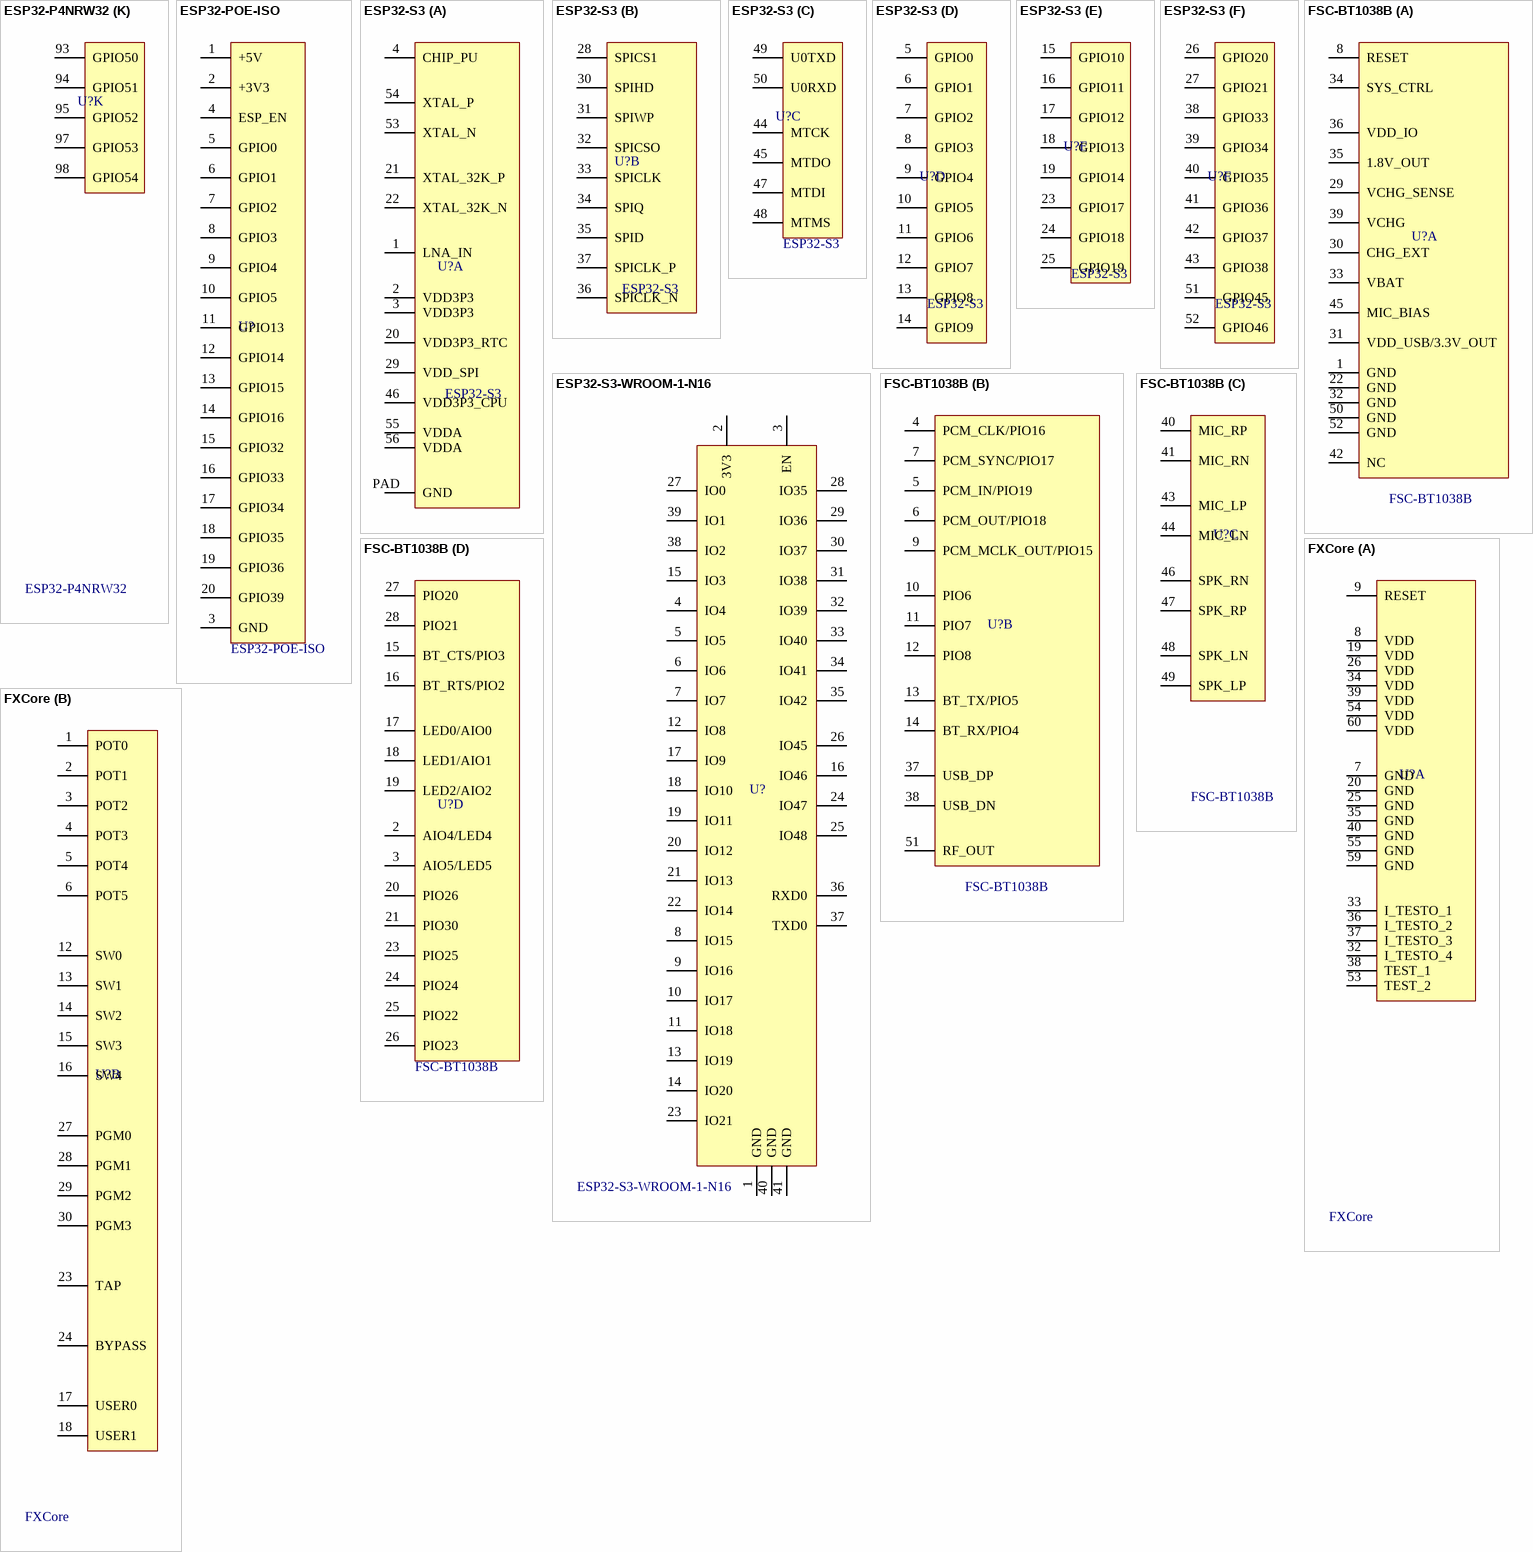
[diagram p8: symbols ESP32-P4NRW32 to FXCore]

## ESP32-P4NRW32
designator U?
32-bit RISC-V MCU; Manufacturer: Espressif; Category: IC; Sub-Category: CPU; Package: QFN104; Value: ESP32-P4NRW32
footprint PQFN35P1000X1000X90_HS-105N (PQFN, 104-Leads, Body 10,00x10,00mm, Pitch 0,35mm, Thermal Pad 7,50x7,50mm, IPC Medium Density)
part A pins: 9 VDD_LP, 21 VDD_IO_0, 26 VDD_HP_0, 30 VDD_FLASHIO, 41 VDD_MIPI_DPHY, 51 VDD_USBPHY, 54 NC, 59 VDD_PSRAM_0, 62 VDD_IO_4, 67 VDD_PSRAM_1, 71 VDDO_FLASH, 72 VDDO_PSRAM, 73 VDDO_3, 74 VDDO_4, 75 VDD_LDO, 76 VDD_HP_2, 77 VDD_DCDCC, 78 FB_DCDC, 79 EN_DCDC, 85 VDD_IO_5, 91 VDD_HP_3, 96 VDD_IO_6, 99 XTAL_N, 100 XTAL_P, 101 VDD_ANA, 102 VDD_BAT, 103 CHIP_PU, PAD GND
part B pins: 34 DSI_REXT, 35 DSI_DATAP1, 36 DSI_DATAN1, 37 DSI_CLKN, 38 DSI_CLKP, 39 DSI_DATAP0, 40 DSI_DATAN0
part C pins: 42 CSI_DATAN0, 43 CSI_DATAP0, 44 CSI_CLKP, 45 CSI_CLKN, 46 CSI_DATAN1, 47 CSI_DATAP1, 48 CSI_REXT
part D pins: 27 FLASH_CS, 28 FLASH_Q, 29 FLASH_WP, 31 FLASH_HOLD, 32 FLASH_CK, 33 FLASH_D
part E pins: 49 USB_DM, 50 USB_DP
part F pins: 1 GPIO1, 2 GPIO2, 3 GPIO3, 4 GPIO4, 5 GPIO5, 6 GPIO6, 7 GPIO7, 8 GPIO8, 10 GPIO9, 104 GPIO0
part G pins: 11 GPIO10, 12 GPIO11, 13 GPIO12, 14 GPIO13, 15 GPIO14, 16 GPIO15, 17 GPIO16, 18 GPIO17, 19 GPIO18, 20 GPIO19
part H pins: 22 GPIO20, 23 GPIO21, 24 GPIO22, 25 GPIO23, 52 GPIO24, 53 GPIO25, 55 GPIO26, 56 GPIO27, 57 GPIO28, 58 GPIO29
part I pins: 60 GPIO30, 61 GPIO31, 63 GPIO32, 64 GPIO33, 65 GPIO34, 66 GPIO35, 68 GPIO36, 69 GPIO37, 70 GPIO38, 80 GPIO39
part J pins: 81 GPIO40, 82 GPIO41, 83 GPIO42, 84 GPIO43, 86 GPIO44, 87 GPIO45, 88 GPIO46, 89 GPIO47, 90 GPIO48, 92 GPIO49
part K pins: 93 GPIO50, 94 GPIO51, 95 GPIO52, 97 GPIO53, 98 GPIO54

## ESP32-POE-ISO
designator U?
ESP32-POE-ISO IoT development board with 100Mb Ethernet, Power over Ethernet, WiFi, BLE, programmer; Manufacturer: Olimex; Category: Module; Sub-Category: CPU; Value: ESP32-POE-ISO
footprint ESP32_POE
pins: 1 +5V, 2 +3V3, 3 GND, 4 ESP_EN, 5 GPIO0, 6 GPIO1, 7 GPIO2, 8 GPIO3, 9 GPIO4, 10 GPIO5, 11 GPIO13, 12 GPIO14, 13 GPIO15, 14 GPIO16, 15 GPIO32, 16 GPIO33, 17 GPIO34, 18 GPIO35, 19 GPIO36, 20 GPIO39

## ESP32-S3
designator U?
Xtensa® 32-bit LX7 dual-core microprocessor / 2.4 GHz Wi-Fi (IEEE 802.11b/g/n) and Bluetooth® 5 (LE) / Optional 1.8 V or 3.3 V flash and PSRAM in the chip’s package / 45 GPIOs; Manufacturer: Espressif; Package: QFN56; Category: IC; Sub-Category: CPU; Value: ESP32-S3
footprint PQFN40P700X700X90_HS-57N (PQFN, 56-Leads, Body 7,00x7,00mm, Pitch 0,40mm, Thermal Pad 4,00x4,00mm, IPC Medium Density)
part A pins: 1 LNA_IN, 2 VDD3P3, 3 VDD3P3, 4 CHIP_PU, 20 VDD3P3_RTC, 21 XTAL_32K_P, 22 XTAL_32K_N, 29 VDD_SPI, 46 VDD3P3_CPU, 53 XTAL_N, 54 XTAL_P, 55 VDDA, 56 VDDA, PAD GND
part B pins: 28 SPICS1, 30 SPIHD, 31 SPIWP, 32 SPICSO, 33 SPICLK, 34 SPIQ, 35 SPID, 36 SPICLK_N, 37 SPICLK_P
part C pins: 44 MTCK, 45 MTDO, 47 MTDI, 48 MTMS, 49 U0TXD, 50 U0RXD
part D pins: 5 GPIO0, 6 GPIO1, 7 GPIO2, 8 GPIO3, 9 GPIO4, 10 GPIO5, 11 GPIO6, 12 GPIO7, 13 GPIO8, 14 GPIO9
part E pins: 15 GPIO10, 16 GPIO11, 17 GPIO12, 18 GPIO13, 19 GPIO14, 23 GPIO17, 24 GPIO18, 25 GPIO19
part F pins: 26 GPIO20, 27 GPIO21, 38 GPIO33, 39 GPIO34, 40 GPIO35, 41 GPIO36, 42 GPIO37, 43 GPIO38, 51 GPIO45, 52 GPIO46

## ESP32-S3-WROOM-1-N16
designator U?
Multiprotocol Modules SMD module, ESP32-S3, 16 MB SPI flash, PCB antenna; Manufacturer: Espressif; Category: IC; Sub-Category: CPU; Value: ESP32-S3-WROOM-1-N16
footprint ESP32-S3-WROOM-1
pins: 1 GND, 2 3V3, 3 EN, 4 IO4, 5 IO5, 6 IO6, 7 IO7, 8 IO15, 9 IO16, 10 IO17, 11 IO18, 12 IO8, 13 IO19, 14 IO20, 15 IO3, 16 IO46, 17 IO9, 18 IO10, 19 IO11, 20 IO12, 21 IO13, 22 IO14, 23 IO21, 24 IO47, 25 IO48, 26 IO45, 27 IO0, 28 IO35, 29 IO36, 30 IO37, 31 IO38, 32 IO39, 33 IO40, 34 IO41, 35 IO42, 36 RXD0, 37 TXD0, 38 IO2, 39 IO1, 40 GND, 41 GND

## FSC-BT1038B
designator U?
QCC3084 BT5.4 Classic & LE Audio Receiver Module; Manufacturer: Feasycom; Category: CPU; Sub-Category: Module; Value: FSC-BT1038B
footprint FSC-BT1038B
part A pins: 1 GND, 8 RESET, 22 GND, 29 VCHG_SENSE, 30 CHG_EXT, 31 VDD_USB/3.3V_OUT, 32 GND, 33 VBAT, 34 SYS_CTRL, 35 1.8V_OUT, 36 VDD_IO, 39 VCHG, 42 NC, 45 MIC_BIAS, 50 GND, 52 GND
part B pins: 4 PCM_CLK/PIO16, 5 PCM_IN/PIO19, 6 PCM_OUT/PIO18, 7 PCM_SYNC/PIO17, 9 PCM_MCLK_OUT/PIO15, 10 PIO6, 11 PIO7, 12 PIO8, 13 BT_TX/PIO5, 14 BT_RX/PIO4, 37 USB_DP, 38 USB_DN, 51 RF_OUT
part C pins: 40 MIC_RP, 41 MIC_RN, 43 MIC_LP, 44 MIC_LN, 46 SPK_RN, 47 SPK_RP, 48 SPK_LN, 49 SPK_LP
part D pins: 2 AIO4/LED4, 3 AIO5/LED5, 15 BT_CTS/PIO3, 16 BT_RTS/PIO2, 17 LED0/AIO0, 18 LED1/AIO1, 19 LED2/AIO2, 20 PIO26, 21 PIO30, 23 PIO25, 24 PIO24, 25 PIO22, 26 PIO23, 27 PIO20, 28 PIO21

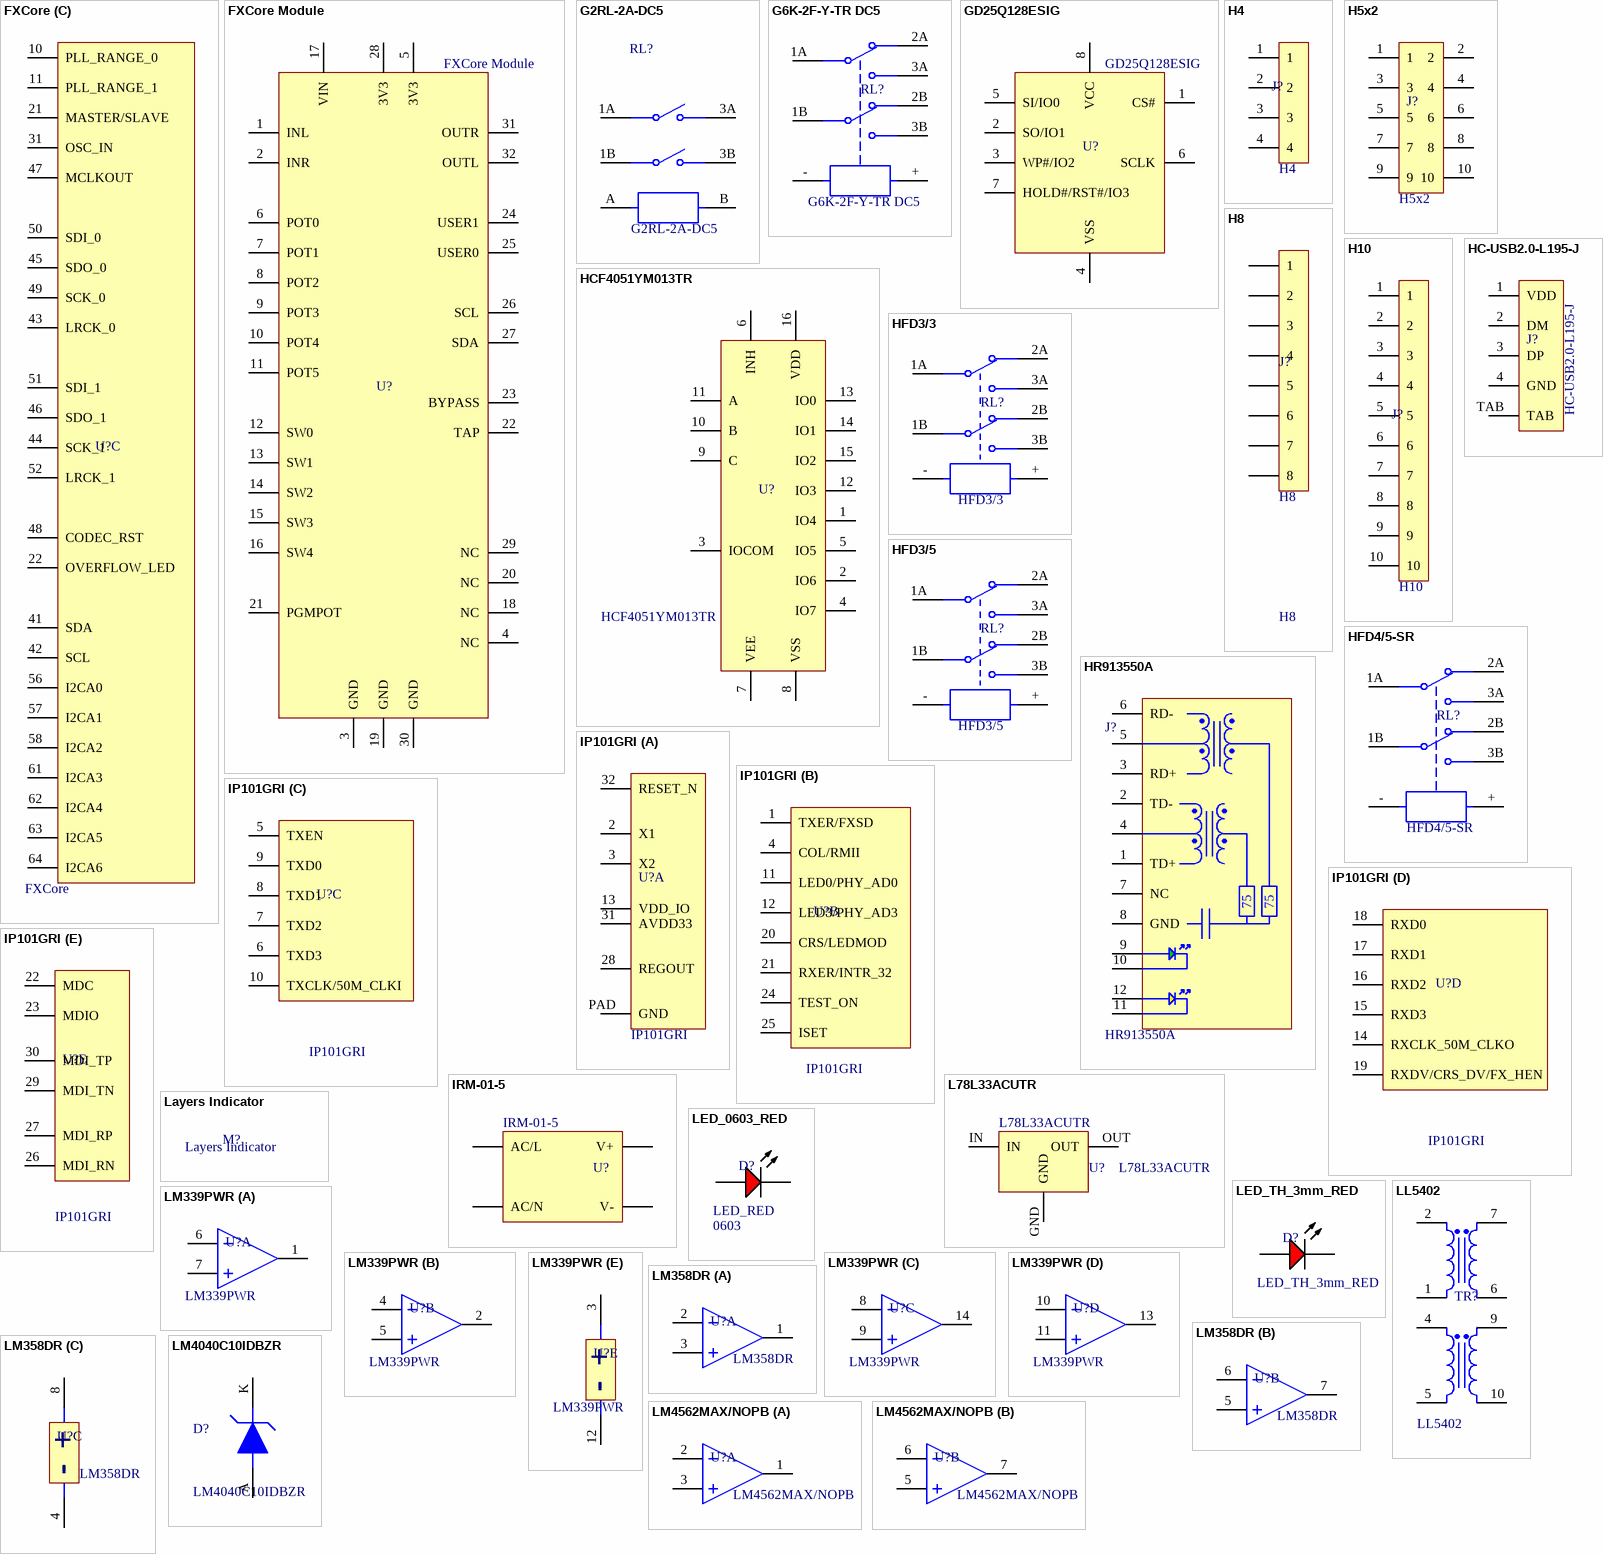
[diagram p9: symbols FXCore to LM4562MAX/NOPB]

## FXCore
designator U?
Audio Effects DSP; Manufacturer: Experimental Noize; Category: IC; Sub-Category: CPU; Package: QFP64; Value: FXCore
footprint TSQFP50P1200X1200X120-64N (TSQFP, 64-Leads, Body 10,00x10,00mm, Pitch 0,50mm, IPC Medium Density)
part A pins: 7 GND, 8 VDD, 9 RESET, 19 VDD, 20 GND, 25 GND, 26 VDD, 32 I_TESTO_4, 33 I_TESTO_1, 34 VDD, 35 GND, 36 I_TESTO_2, 37 I_TESTO_3, 38 TEST_1, 39 VDD, 40 GND, 53 TEST_2, 54 VDD, 55 GND, 59 GND, 60 VDD
part B pins: 1 POT0, 2 POT1, 3 POT2, 4 POT3, 5 POT4, 6 POT5, 12 SW0, 13 SW1, 14 SW2, 15 SW3, 16 SW4, 17 USER0, 18 USER1, 23 TAP, 24 BYPASS, 27 PGM0, 28 PGM1, 29 PGM2, 30 PGM3
part C pins: 10 PLL_RANGE_0, 11 PLL_RANGE_1, 21 MASTER/SLAVE, 22 OVERFLOW_LED, 31 OSC_IN, 41 SDA, 42 SCL, 43 LRCK_0, 44 SCK_1, 45 SDO_0, 46 SDO_1, 47 MCLKOUT, 48 CODEC_RST, 49 SCK_0, 50 SDI_0, 51 SDI_1, 52 LRCK_1, 56 I2CA0, 57 I2CA1, 58 I2CA2, 61 I2CA3, 62 I2CA4, 63 I2CA5, 64 I2CA6

## FXCore Module
designator U?
Electric Canary FXCore Module Stereo Audio DSP; Manufacturer: Electric Canary; Category: Module; Sub-Category: CPU; Value: FXCore Module
footprint FXCore_Module
pins: 1 INL, 2 INR, 3 GND, 4 NC, 5 3V3, 6 POT0, 7 POT1, 8 POT2, 9 POT3, 10 POT4, 11 POT5, 12 SW0, 13 SW1, 14 SW2, 15 SW3, 16 SW4, 17 VIN, 18 NC, 19 GND, 20 NC, 21 PGMPOT, 22 TAP, 23 BYPASS, 24 USER1, 25 USER0, 26 SCL, 27 SDA, 28 3V3, 29 NC, 30 GND, 31 OUTR, 32 OUTL

## G2RL-2A-DC5
designator RL?
Electromechanical Relay 5VDC 62.5Ohm 8A DPST-NO (29x12.7x15.7)mm THT Power Relay; Manufacturer: Omron; Category: Switch; Sub-Category: Relay; Manufacturer Part Number: G2RL-2A-DC5; Component Type: Standard_Relay; Value: G2RL-2A-DC5
footprint G2RL Relay (Low profile power relay / with 15.7 mm height, ideal for / incorporation in miniature / equipments)
pins: 1A, 1B, 3A, 3B, A, B

## G6K-2F-Y-TR DC5
designator RL?
Low Signal Relays - PCB Gullwing NoLatch 3.2 DPDT 5VDC 100mW T/R; Manufacturer: Omron; Category: Switch; Sub-Category: Relay; Value: G6K-2F-Y-TR DC5
footprint G6K-2F-Y-TR DC5
pins: 1A, 1B, 2A, 2B, 3A, 3B, +, -

## GD25Q128ESIG
designator U?
128M-bit Serial Flash; Manufacturer: GigaDevice; Category: IC; Sub-Category: Memory; Package: SOIC8 Wide; Value: GD25Q128ESIG
footprint SOIC127P790X191-8N (SOIC, 8-Leads, Body 5,23x5,23mm, Pitch 1,27mm, IPC Medium Density)
pins: 1 CS#, 2 SO/IO1, 3 WP#/IO2, 4 VSS, 5 SI/IO0, 6 SCLK, 7 HOLD#/RST#/IO3, 8 VCC

## H4
designator J?
Generic 4 pins 2.54mm pitch Header; Manufacturer: Generic; Category: Connector; Sub-Category: Header; Value: H4
footprint H4
pins: 1, 2, 3, 4

## H5x2
designator J?, comment value H5x2  (hidden comment: 10 Header 2 Rows)
Generic 10 pins, 2 rows, 2.54mm pitch header; Manufacturer: Generic; Category: Connector; Sub-Category: Header
footprint H5X2
pins: 1, 2, 3, 4, 5, 6, 7, 8, 9, 10

## H8
designator J?
Generic 8 Pins, 1 row, 2.54mm pitch Header; Category: Connector; Sub-Category: Header; Manufacturer: Generic; Value: H8
footprint H8
pins: 1, 2, 3, 4, 5, 6, 7, 8

## H10
designator J?, comment value H10  (hidden comment: 10 Header)
Generic 10 pins, 1 row, 2.54mm pitch header; Manufacturer: Generic; Category: Connector; Sub-Category: Header
footprint H10
pins: 1, 2, 3, 4, 5, 6, 7, 8, 9, 10

## HC-USB2.0-L195-J
designator J?
Female Type-A USB 2.0 Vertical; Manufacturer: Hong Cheng; Category: Connector; Sub-Category: USB; Value: HC-USB2.0-L195-J
footprint HC-USB2.0-L195-J
pins: 1 VDD, 2 DM, 3 DP, 4 GND, TAB

## HCF4051YM013TR
designator U?
Single 8-channel analog multiplexer/demultiplexer; Manufacturer: STMicroelectronics; Package: SOIC16; Category: IC; Sub-Category: Logic; Value: HCF4051YM013TR
footprint SOIC127P600X175-16N (SOIC, 16-Leads, Body 10,40x3,95mm, Pitch 1,27mm, IPC Medium Density)
pins: 1 IO4, 2 IO6, 3 IOCOM, 4 IO7, 5 IO5, 6 INH, 7 VEE, 8 VSS, 9 C, 10 B, 11 A, 12 IO3, 13 IO0, 14 IO1, 15 IO2, 16 VDD

## HFD3/3
designator RL?
Subminiature Signal Relay; Manufacturer: Hongfa; Category: Switch; Sub-Category: Relay; Value: HFD3/3
footprint HFD3; pin to pad 1A>4 1B>9 2A>3 2B>10 3A>5 3B>8 +>1 ->12
pins: 1A, 1B, 2A, 2B, 3A, 3B, +, -

## HFD3/5
designator RL?
Subminiature Signal Relay; Manufacturer: Hongfa; Category: Switch; Sub-Category: Relay; Value: HFD3/5
footprint HFD3; pin to pad 1A>4 1B>9 2A>3 2B>10 3A>5 3B>8 +>1 ->12
pins: 1A, 1B, 2A, 2B, 3A, 3B, +, -

## HFD4/5-SR
designator RL?
2A 5V Two Sets of Conversion: 2C (DPDT-Conversion) SMD,6.5x10mm Signal Relays ROHS; Manufacturer: Hongfa; Category: Switch; Sub-Category: Relay; Value: HFD4/5-SR
footprint HDF4/5-SR
pins: 1A, 1B, 2A, 2B, 3A, 3B, +, -

## HR913550A
designator J?
RJ45 Jack 1 With LED Through Hole Ethernet Connectors / Modular Connectors (RJ45 RJ11) ROHS; Manufacturer: Hanrun; Category: Connector; Sub-Category: RJ45; Value: HR913550A
footprint HR913550A
pins: 1 TD+, 2 TD-, 3 RD+, 4, 5, 6 RD-, 7 NC, 8 GND, 9, 10, 11, 12
text: 75

## IP101GRI
designator U?
Single Port Fast Ethernet Transceiver; Manufacturer: IC Plus; Category: IC; Sub-Category: Logic; Package: QFN32; Value: IP101GRI
footprint PQFN40P400X400X90_HS-33N (PQFN, 32-Leads, Body 4,00x4,00mm, Pitch 0,40mm, Thermal Pad 2,68x2,68mm, IPC Medium Density)
part A pins: 2 X1, 3 X2, 13 VDD_IO, 28 REGOUT, 31 AVDD33, 32 RESET_N, PAD GND
part B pins: 1 TXER/FXSD, 4 COL/RMII, 11 LED0/PHY_AD0, 12 LED3/PHY_AD3, 20 CRS/LEDMOD, 21 RXER/INTR_32, 24 TEST_ON, 25 ISET
part C pins: 5 TXEN, 6 TXD3, 7 TXD2, 8 TXD1, 9 TXD0, 10 TXCLK/50M_CLKI
part D pins: 14 RXCLK_50M_CLKO, 15 RXD3, 16 RXD2, 17 RXD1, 18 RXD0, 19 RXDV/CRS_DV/FX_HEN
part E pins: 22 MDC, 23 MDIO, 26 MDI_RN, 27 MDI_RP, 29 MDI_TN, 30 MDI_TP

## IRM-01-5
designator U?
AC-DC Regulated Power Supply Module, 1 Output, 1W, Hybrid; Manufacturer: Mean Well; Manufacturer Part Number: IRM-01-05; Category: IC; Sub-Category: Power; RoHS Compliant: Yes; Manufacturer Part Number: IRM-01-5; Component Type: Standard_IC_Power; Value: IRM-01-5
footprint IRM-01-3.3 (1W Single Output Encapsulated PSU)
pins: AC/L, AC/N, V+, V-

## L78L33ACUTR
designator U?
Fixed Positive Standard Regulator, 3.3VBIPolar, PSSO3; Manufacturer: STMicroelectronics; Output Voltage1-Nom: 3.3V; Load Regulation-Max: 0.06%; Qualification Status: Not Qualified; Package Body Material: Plastic; Output Voltage1-Max: 3.465V; Number of Functions: 1; Regulator Type: FIXED POSITIVE SINGLE OUTPUT STANDARD REGULATOR; Output Voltage1-Min: 3.135V; Output Current1-Max: 70mA; Line Regulation-Max: 0.15%; Time @ Peak Reflow Temperature-Max (s): 30s; Max Input Voltage: 20V; Input Voltage Absolute-Max: 30V; Voltage Tolerance-Max: 5%; Dropout Voltage1-Nom: 1.7V; Min Input Voltage: 5.3V; Package Equivalence Code: TO-243; Operating Temperature, TJ-Min: 0°C; REACH SVHC: No SVHC; Terminal Form: Flat; Terminal Position: SINGLE; Packaging: Tape and Reel; Height - Seated (Max): 1.6mm; Operating Temperature, TJ-Max: 125°C; RoHS Compliant: Yes; Technology: BIPOLAR; Adjustability: FIXED; Number of Outputs: 1; Width: 2.445mm; Terminal Finish: Tin; Length: 4.5mm; Moisture Sensitivity Level: 1; Terminal Pitch: 1.495mm; JESD-30 Code: R-PSSO-F3; Number of Pins: 3; Peak Reflow Temperature (Cel): 260°C; Package Style: SMALL OUTLINEMeter; JESD-609 Code: e3; Package Shape: Rectangular; Surface Mount: Yes; Manufacturer Part Number: L78L33ACUTR; Component Type: Standard_IC_Power; Category: IC; Sub-Category: Power; Package: SOT89; Value: L78L33ACUTR
footprint SOT89-150P410X160-3N (SOT89, 3-Leads, Body 4.50x2.45mm, Pitch 1.50mm, Lead Span 4.1mm, IPC Medium Density); pin to pad GND>2 IN>3 OUT>1
pins: GND, IN, OUT

## Layers Indicator
designator M?  (value not drawn)
Title of each layers; Value: Layers Indicator; Category: Mechanical; Sub-Category: Logo
footprint Layers_Indicator_2

## LED_0603_RED
designator D?  value LED_RED  Package: 0603  (hidden comment: LED_0603_RED)
Generic 0603 Red Led; Manufacturer: Generic; Category: Diode; Sub-Category: LED
footprint WL-SMCW_0603_150060xx75000 (SMD Mono-color Chip LED, body 1.60 x 0.80 mm)
pins: A, K

## LED_TH_3mm_RED
designator D?
Generic Through Hole 3mm Red Led; Manufacturer: Generic; Category: Diode; Sub-Category: LED; Value: LED_TH_3mm_RED
footprint LED_TH_3mm_RED
pins: A, K

## LL5402
designator TR?
Audio Output Transformer; Manufacturer: Lundahl; Category: Inductor; Sub-Category: Transformer; Value: LL5402
footprint LL5402
pins: 1, 2, 4, 5, 6, 7, 9, 10

## LM339PWR
designator U?
Analog Comparators Quad Diff A Grade; Manufacturer: Texas Instruments; Category: IC; Sub-Category: Comparator; Package: TSSOP14; Value: LM339PWR
footprint TSOP65P640X120-14N (TSOP, 14-Leads, Body 5,00x4,40mm, Pitch 0,65mm, IPC Medium Density)
part A pins: 1 OUT1, 6 IN1-, 7 IN1+
part B pins: 2 OUT1, 4 IN1-, 5 IN1+
part C pins: 8 IN1-, 9 IN1+, 14 OUT1
part D pins: 10 IN1-, 11 IN1+, 13 OUT1
part E pins: 3 VCC+ (power), 12 VCC- (power)
part E text: +; -

## LM358DR
designator U?
Industry-Standard Dual Operational Amplifiers; Manufacturer: Texas Instruments; Category: IC; Sub-Category: OpAmp; Package: SOIC8; Value: LM358DR
footprint SOIC127P600X175-8L (SOIC, 8-Leads, Body 4,90x3,90mm, Pitch 1,27mm, IPC High Density)
part A pins: 1 OUT1, 2 IN1-, 3 IN1+
part B pins: 5 IN2+, 6 IN2-, 7 OUT2
part C pins: 4 VCC- (power), 8 VCC+ (power)
part C text: +; -

## LM4040C10IDBZR
designator D?
Precision Micropower Shunt Voltage Reference; Manufacturer: Texas Instruments; Category: Diode; Sub-Category: Signal; Value: LM4040C10IDBZR
footprint SOT95P237X112-3N (SOT23, 3-Leads, Body 2,92x2,37mm, Pitch 0,95mm, IPC Medium Density); pin to pad A>2 K>1
pins: A, K

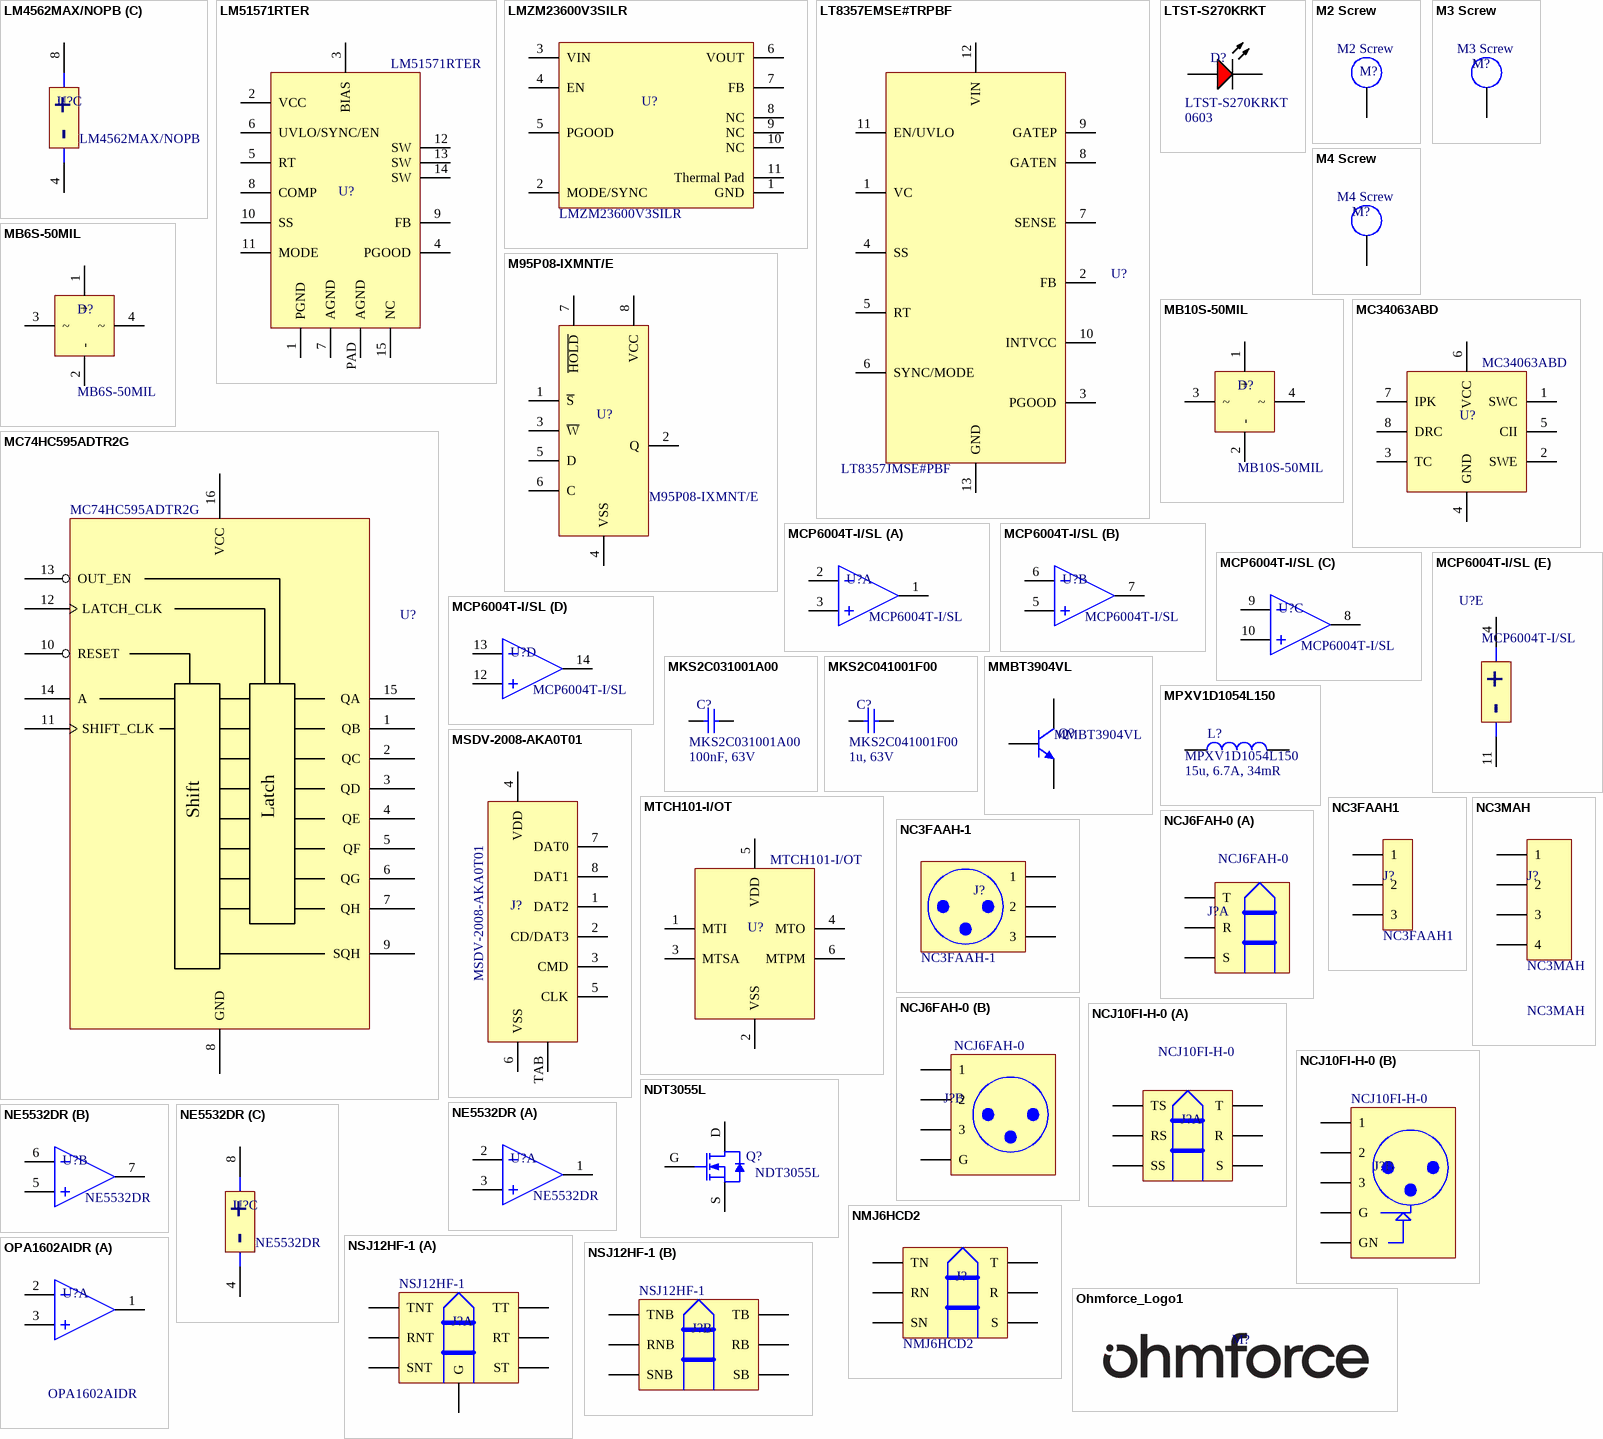
[diagram p10: symbols LM4562MAX/NOPB to OPA1602AIDR]

## LM4562MAX/NOPB
designator U?
Dual High-Performance, High-Fidelity Audio Operational Amplifier; Manufacturer: Texas Instruments; Category: IC; Sub-Category: OpAmp; Package: SOIC8; Value: LM4562MAX/NOPB
footprint SOIC127P600X175-8L (SOIC, 8-Leads, Body 4,90x3,90mm, Pitch 1,27mm, IPC High Density)
part A pins: 1 OUT1, 2 IN1-, 3 IN1+
part B pins: 5 IN2+, 6 IN2-, 7 OUT2
part C pins: 4 VCC- (power), 8 VCC+ (power)
part C text: +; -

## LM51571RTER
designator U?
2.2-MHz Wide VIN 50-V Boost/SEPIC/Flyback Converter with Dual Random / Spread Spectrum; Manufacturer: Texas Instruments; Category: IC; Sub-Category: Power; Value: LM51571RTER
footprint QFN50P300X300X80_HS-17N (QFN, 16-Leads, Body 3,00x3,00mm, Pitch 0,50mm, Thermal Pad 1,68x1,68mm, IPC Medium Density)
pins: 1 PGND, 2 VCC, 3 BIAS, 4 PGOOD, 5 RT, 6 UVLO/SYNC/EN, 7 AGND, 8 COMP, 9 FB, 10 SS, 11 MODE, 12 SW, 13 SW, 14 SW, 15 NC, PAD AGND

## LMZM23600V3SILR
designator U?
36-V, 0.5-A Step-Down DC/DC Power Module in 3.8-mm × 3-mm Package; Manufacturer: Texas Instruments; Category: IC; Sub-Category: Power; Value: LMZM23600V3SILR
footprint LMZM23600V3SILR (36-V, 0.5-A Step-Down DC/DC Power Module in 3.8-mm × 3-mm Package)
pins: 1 GND, 2 MODE/SYNC, 3 VIN, 4 EN, 5 PGOOD, 6 VOUT, 7 FB, 8 NC, 9 NC, 10 NC, 11 Thermal Pad

## LT8357EMSE#TRPBF
designator U?  value LT8357JMSE#PBF  (hidden comment: LT8357EMSE#TRPBF)
Switching Controller; Manufacturer: Analog Devices; Sub-Category: Power; RoHS Compliant: Yes; Category: IC; Manufacturer Part Number: LT8357EMSE#TRPBF; Component Type: Standard_IC_Power; Package: MSOP12
footprint TSOP65P490X110_HS-13N (TSOP, 12-Leads, Body 3.44x3.00mm, Pitch 0.65mm, Thermal Pad 2.95x1.76mm, IPC Medium Density)
pins: 1 VC, 2 FB, 3 PGOOD, 4 SS, 5 RT, 6 SYNC/MODE, 7 SENSE, 8 GATEN, 9 GATEP, 10 INTVCC, 11 EN/UVLO, 12 VIN, 13 GND

## LTST-S270KRKT
designator D?  Package: 0603  (hidden comment: LTST-S270KRKT)
Side view 0603 Red Led; Manufacturer: Generic; Category: Diode; Sub-Category: LED; Value: LTST-S270KRKT
footprint LTST-S270KRKT (SMD Mono-color Chip LED, body 1.60 x 0.80 mm)
pins: A, K

## M2 Screw
designator M?
M2 Screw Hole; Manufacturer: Generic; Category: Mechanical; Sub-Category: Screw; Value: M2 Screw
footprint M2 Screw
pins: 1

## M3 Screw
designator M?
Hole for M3 Screw; Manufacturer: Generic; Sub-Category: Screw; Category: Mechanical; Component Type: Standard_Misc; Diameter: 3mm; Value: M3 Screw
footprint M3 Screw Hole (3M Screw Hole)
pins: 1

## M4 Screw
designator M?
Hole for M4 Screw; Manufacturer: Generic; Sub-Category: Screw; Category: Mechanical; Component Type: Standard_Mechanical; Value: M4 Screw
footprint M4 Screw
pins: 1

## M95P08-IXMNT/E
designator U?
EEPROM Ultra low-power 8 Mbit Serial SPI Page EEPROM; Manufacturer: Microchip; Category: IC; Sub-Category: Memory; Package: SOIC8; Value: M95P08-IXMNT/E
footprint SOIC127P600X175-8L (SOIC, 8-Leads, Body 4,90x3,90mm, Pitch 1,27mm, IPC High Density)
pins: 1 ~{S}, 2 Q, 3 ~{W}, 4 VSS, 5 D, 6 C, 7 ~{HOLD}, 8 VCC

## MB6S-50MIL
designator D?
SINGLE PHASE GLASS PASSIVATED BRIDGE RECTIFIERS; Manufacturer: Microdiode Semiconductor; Category: Diode; Sub-Category: Bridge; Value: MB6S-50MIL
footprint MB6S
pins: 1 +, 2 -, 3 ~, 4 ~

## MB10S-50MIL
designator D?
SINGLE PHASE GLASS PASSIVATED BRIDGE RECTIFIERS; Manufacturer: Microdiode Semiconductor; Category: Diode; Sub-Category: Bridge; Value: MB10S-50MIL
footprint MB6S
pins: 1 +, 2 -, 3 ~, 4 ~

## MC74HC595ADTR2G
designator U?
Serial In Parallel Out, HC/UH Series, 8-Bit, Right Direction, True Output, CMOS, PDSO16; Manufacturer: Onsemi; Qualification Status: Not Qualified; Number of Functions: 1; Power Supplies: 2/6V; Propagation Delay (tpd): 210ns; Supply Voltage-Max (Vsup): 6V; Time @ Peak Reflow Temperature-Max (s): 40s; Supply Voltage-Min (Vsup): 2V; Output Characteristics: 3-STATE; fmax-Min: 24MHz; Max Frequency@Nom-Sup: 20MHz; Package Equivalence Code: TSSOP16,.25; Clock Edge Trigger Type: Positive Edge; Package Body Material: Plastic; Supply Voltage-Nom (Vsup): 3V; Number of Bits: 8; Surface Mount: Yes; Package Style: SMALL OUTLINE, THIN PROFILE, SHRINK PITCHMeter; Package Code: TSSOP; Height - Seated (Max): 1.2mm; Logic IC Type: SERIAL IN PARALLEL OUT; Count Direction: RIGHT; JESD-609 Code: e4; RoHS Compliant: Yes; Temperature Grade: MILITARY; Terminal Form: Gull Wing; REACH SVHC: Yes; Terminal Pitch: 0.65mm; Width: 4.4mm; Moisture Sensitivity Level: 1; Terminal Finish: Nickel; Technology: CMOS; Max Operating Temperature: 125°C; Package Shape: Rectangular; Number of Pins: 16; Category: IC; JESD-30 Code: R-PDSO-G16; Peak Reflow Temperature (Cel): 260°C; Min Operating Temperature: -55°C; Length: 5mm; Sub-Category: Logic; Terminal Position: DUAL; Output Polarity: True; Manufacturer Part Number: MC74HC595ADTR2G; Component Type: Standard_IC_Logic; Package: TSSOP16; Value: MC74HC595ADTR2G
footprint TSOP65P640X120-16N (TSOP, 16-Leads, Body 5.00x4.40mm, Pitch 0.65mm, IPC Medium Density)
pins: 1 QB, 2 QC, 3 QD, 4 QE, 5 QF, 6 QG, 7 QH, 8 GND, 9 SQH, 10 RESET, 11 SHIFT_CLK, 12 LATCH_CLK, 13 OUT_EN, 14 A, 15 QA, 16 VCC
text: Shift; Latch

## MC34063ABD
designator U?
DC-DC converter control circuits; Manufacturer: ST; Category: IC; Sub-Category: Power; Package: SOIC8; Value: MC34063ABD
footprint SOIC127P600X175-8L (SOIC, 8-Leads, Body 4,90x3,90mm, Pitch 1,27mm, IPC High Density)
pins: 1 SWC, 2 SWE, 3 TC, 4 GND, 5 CII, 6 VCC, 7 IPK, 8 DRC

## MCP6004T-I/SL
designator U?
1 MHz, Low-Power Op Amp; Manufacturer: Microchip; Category: IC; Sub-Category: OpAmp; Package: SOIC14; Value: MCP6004T-I/SL
footprint SOIC127P600X175-14N (Footprint not found)
part A pins: 1 OUT1, 2 IN1-, 3 IN1+
part B pins: 5 IN2+, 6 IN2-, 7 OUT2
part C pins: 8 OUT2, 9 IN2-, 10 IN2+
part D pins: 12 IN2+, 13 IN2-, 14 OUT2
part E pins: 4 VCC+ (power), 11 VCC- (power)
part E text: +; -

## MKS2C031001A00
designator C?  Notes: 100nF, 63V  (hidden comment: MKS2C031001A00)
Film Capacitor 100nF 63VDC 5%; Manufacturer: Wima; Category: Capacitor; Sub-Category: Film; Value: MKS2C031001A00
footprint MKS2C031001A00
pins: 1, 2

## MKS2C041001F00
designator C?  Notes: 1u, 63V  (hidden comment: MKS2C041001F00)
Film Capacitor 1µF 63VDC 5%; Manufacturer: Wima; Category: Capacitor; Sub-Category: Film; Value: MKS2C041001F00
footprint MKS2C041001F00
pins: 1, 2

## MMBT3904VL
designator Q?
Small Signal Bipolar Transistor, 0.2A I(C), 40V V(BR)CEO, 1-Element, NPN, Silicon, TO-236AB; Manufacturer: Nexperia; Package Body Material: Plastic; Transistor Application: SWITCHING; Max Collector Current: 200mA; DC Current Gain-Min (hFE): 30; Turn-on Time-Max (ton): 70ns; Turn-off Time-Max (toff): 250ns; Number of Elements: 1; Transition Frequency-Nom (fT): 300MHz; JEDEC-95 Code: TO-236AB; Package Shape: Rectangular; JESD-30 Code: R-PDSO-G3; Number of Pins: 3; REACH SVHC: Yes; Sub-Category: BJT; RoHS Compliant: Yes; Transistor Element Material: SILICON; Terminal Position: DUAL; Surface Mount: Yes; Terminal Form: Gull Wing; Package Style: SMALL OUTLINEMeter; Polarity/Channel Type: NPN; Category: Transistor; Collector-emitter Voltage-Max: 40V; Manufacturer Part Number: MMBT3904VL; Component Type: Standard_Transistor; Value: MMBT3904VL
footprint SOT95P230X110-3N (SOT23, 3-Leads, Body 2.90x2.30mm, Pitch 0.95mm, IPC Medium Density); pin to pad B>1 C>3 E>2
pins: B, C, E

## MPXV1D1054L150
designator L?  Notes: 15u, 6.7A, 34mR  (hidden comment: MPXV1D1054L150)
General Purpose Inductor, 15uH, 20%, 1 Element, Metal Composite-Core, SMD, 4339; Manufacturer: Kemet; RoHS Compliant: Yes; Sub-Category: Power; Category: Inductor; Manufacturer Part Number: MPXV1D1054L150; Component Type: Standard_Passive_L; Value: MPXV1D1054L150
footprint INDM108100X54N (Molded Inductor, 2-Leads, Body 10.80x10.00mm, IPC Medium Density)
pins: 1, 2

## MSDV-2008-AKA0T01
designator J?
MICRO SD CARD CONN. VERTICAL DIP TYPE; Manufacturer: Aces Connectors; Category: Connector; Sub-Category: SD; Value: MSDV-2008-AKA0T01
footprint MSDV-2008-AKA0T01
pins: 1 DAT2, 2 CD/DAT3, 3 CMD, 4 VDD, 5 CLK, 6 VSS, 7 DAT0, 8 DAT1, TAB

## MTCH101-I/OT
designator U?
Single Channel Proximity Detector 6-Pin SOT-23 T/R; Manufacturer: Microchip; Category: IC; Sub-Category: Sensor; Package: SOT-23-6; Value: MTCH101-I/OT
footprint SOT95P270X145-6N (SOT23, 6-Leads, Body 2,90x2,70mm, Pitch 0,95mm, IPC Medium Density)
pins: 1 MTI, 2 VSS, 3 MTSA, 4 MTO, 5 VDD, 6 MTPM

## NC3FAAH1
designator J?
Audio/RCA Connector, 3 Pole(s), Female, Solder Terminal, Locking, Receptacle; Manufacturer: Neutrik; Sub-Category: XLR; Category: Connector; System: Connector; Manufacturer Part Number: NC3FAAH1; Component Type: Standard_Connector; Value: NC3FAAH1
footprint NC3FAAH (3 pole female XLR receptacle, grounding: without ground/shell contact, horizontal PCB mount)
pins: 1, 2, 3

## NC3FAAH-1
designator J?
3 pole female XLR receptacle, grounding: mating connector shell to pin1 and front panel, horizontal PCB mount; Manufacturer: Neutrik; Category: Connector; Sub-Category: XLR; Value: NC3FAAH-1
footprint NC3FAAH1
pins: 1, 2, 3

## NC3MAH
designator J?
Conn XLR Connector M 3 POS Solder RA Thru-Hole 3 Terminal 1 Port; Manufacturer: Neutrik; Sub-Category: XLR; Category: Connector; Manufacturer Part Number: NC3MAH; Component Type: Standard_Connector; Value: NC3MAH
footprint NC3MAH (XLR Connectors 3C MALE PCB RECEPTACLE); pin to pad 4>G
pins: 1, 2, 3, 4

## NCJ6FAH-0
designator J?
3 pole XLR female receptacle with 1/4" stereo jack, horizontal PCB mount; Manufacturer: Neutrik; Category: Connector; Sub-Category: XLR; Value: NCJ6FAH-0
footprint NCJ6FAH
part A pins: R, S, T
part B pins: 1, 2, 3, G

## NCJ10FI-H-0
designator J?
3 pole XLR female receptacle with 1/4" switching stereo jack and switching ground contact, horizontal PCB mount, retention spring; Manufacturer: Neutrik; Category: Connector; Sub-Category: XLR; Value: NCJ10FI-H-0
footprint NCJ10FI-H-0 (3 pole XLR female receptacle with 1/4" switching stereo jack and switching ground contact, horizontal PCB mount, retention spring)
part A pins: R, RS, S, SS, T, TS
part B pins: 1, 2, 3, G, GN